# Altium schematic symbol library MCU_NXP_S08.SchLib: 189 symbols (part 3 of 4)
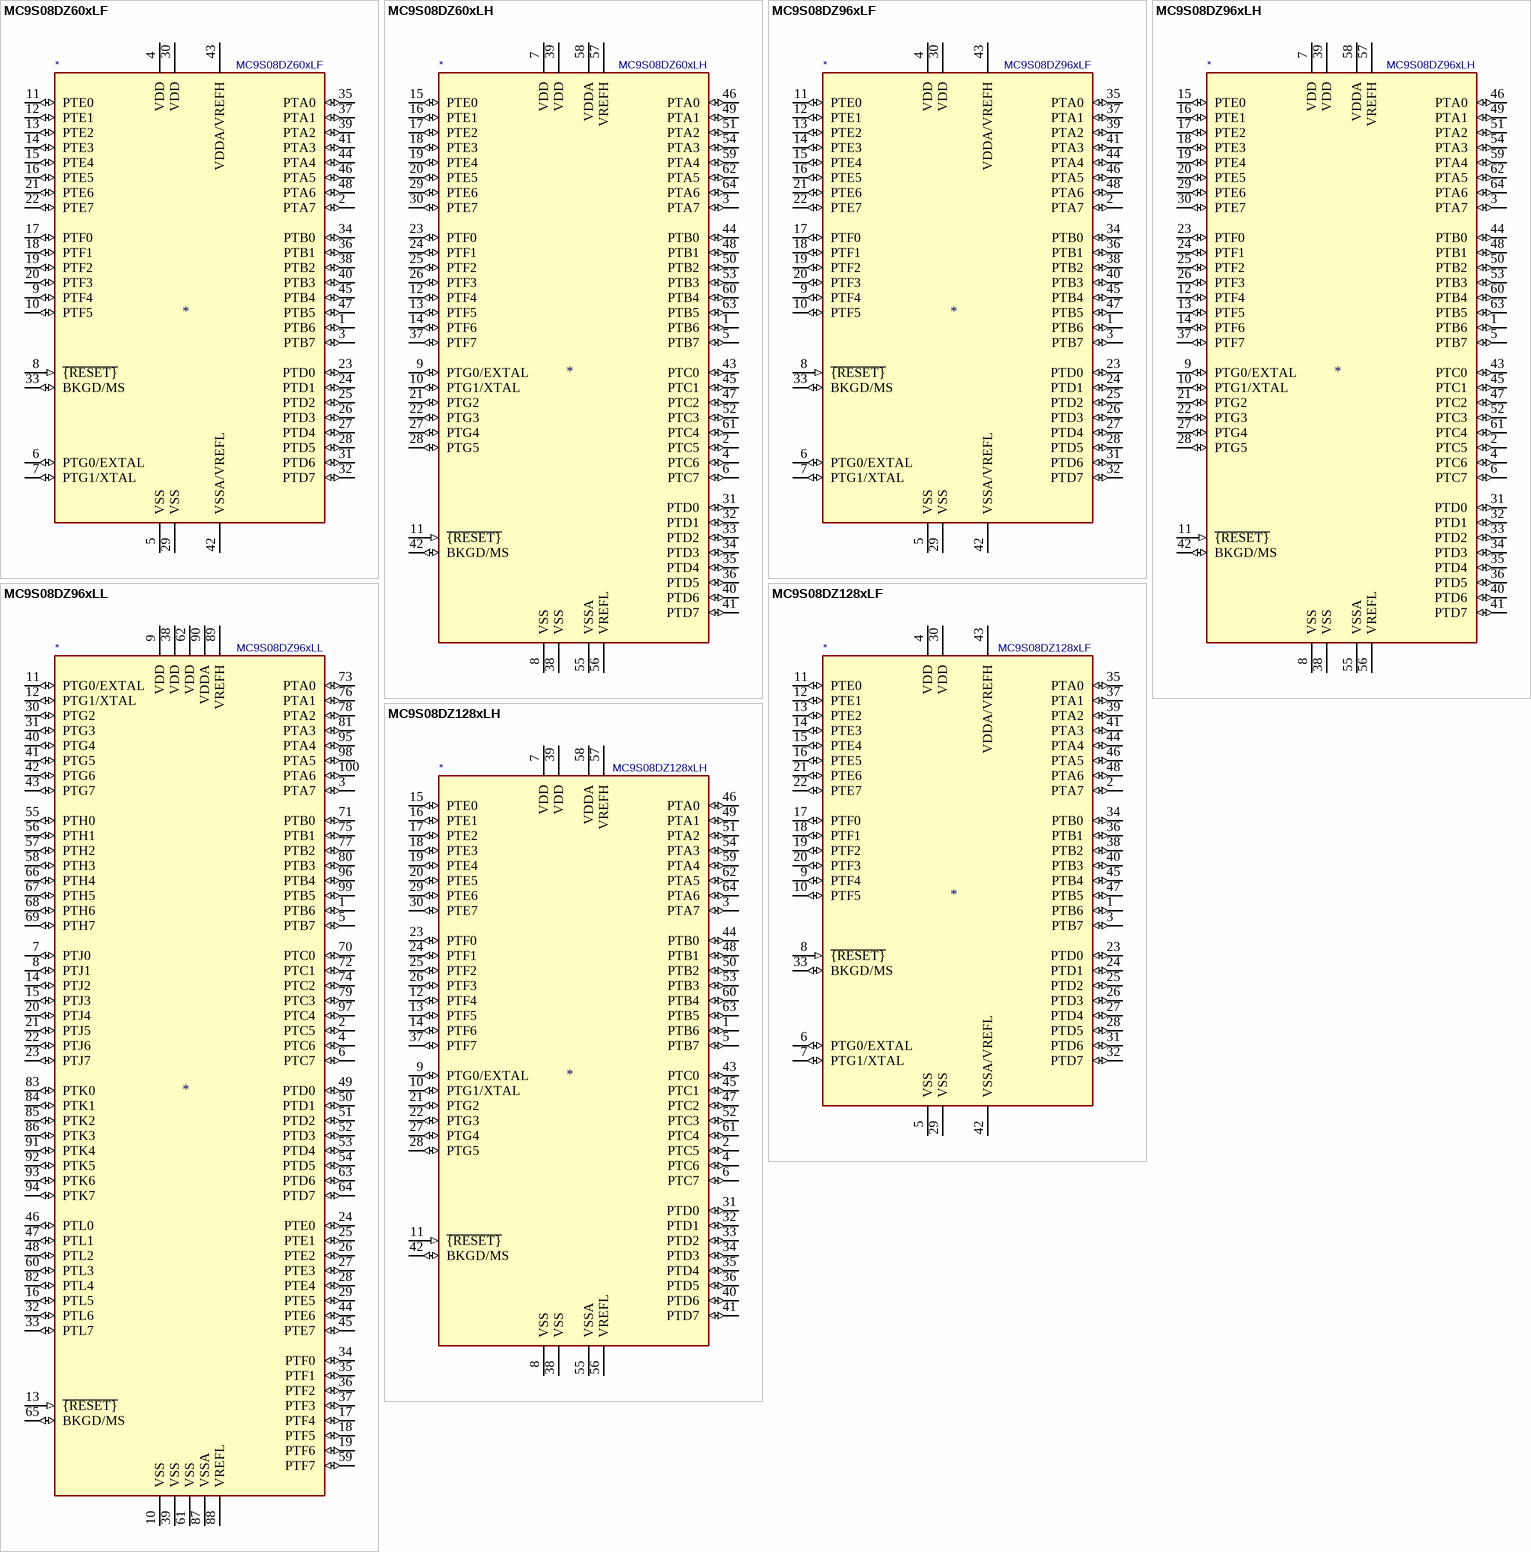
[diagram p21: symbols MC9S08DZ60xLF to MC9S08DZ128xLH]

## MC9S08DZ128xLH
designator *  value MC9S08DZ128xLH
ki_keywords: NXP S08 Microcontroller; ki_description: 8-bit Cost-Effective Microcontroller, S08 core, 128kB Flash, 8kB RAM, 2kB EEPROM, LQFP-64; ki_fp_filters: LQFP*10x10mm*P0.5mm*; Footprint: Package_QFP:LQFP-64_10x10mm_P0.5mm; Supplier: http://cache.nxp.com/files/microcontrollers/doc/data_sheet/MC9S08DZ128.pdf
footprint LQFP-64_10x10mm_P0.5mm
pins: 1 PTB6 (io), 2 PTC5 (io), 3 PTA7 (io), 4 PTC6 (io), 5 PTB7 (io), 6 PTC7 (io), 7 VDD (power), 8 VSS (power), 9 PTG0/EXTAL (io), 10 PTG1/XTAL (io), 11 ~{{RESET}} (in), 12 PTF4 (io), 13 PTF5 (io), 14 PTF6 (io), 15 PTE0 (io), 16 PTE1 (io), 17 PTE2 (io), 18 PTE3 (io), 19 PTE4 (io), 20 PTE5 (io), 21 PTG2 (io), 22 PTG3 (io), 23 PTF0 (io), 24 PTF1 (io), 25 PTF2 (io), 26 PTF3 (io), 27 PTG4 (io), 28 PTG5 (io), 29 PTE6 (io), 30 PTE7 (io), 31 PTD0 (io), 32 PTD1 (io), 33 PTD2 (io), 34 PTD3 (io), 35 PTD4 (io), 36 PTD5 (io), 37 PTF7 (io), 38 VSS (power), 39 VDD (power), 40 PTD6 (io), 41 PTD7 (io), 42 BKGD/MS (io), 43 PTC0 (io), 44 PTB0 (io), 45 PTC1 (io), 46 PTA0 (io), 47 PTC2 (io), 48 PTB1 (io), 49 PTA1 (io), 50 PTB2 (io), 51 PTA2 (io), 52 PTC3 (io), 53 PTB3 (io), 54 PTA3 (io), 55 VSSA (power), 56 VREFL (power), 57 VREFH (power), 58 VDDA (power), 59 PTA4 (io), 60 PTB4 (io), 61 PTC4 (io), 62 PTA5 (io), 63 PTB5 (io), 64 PTA6 (io)

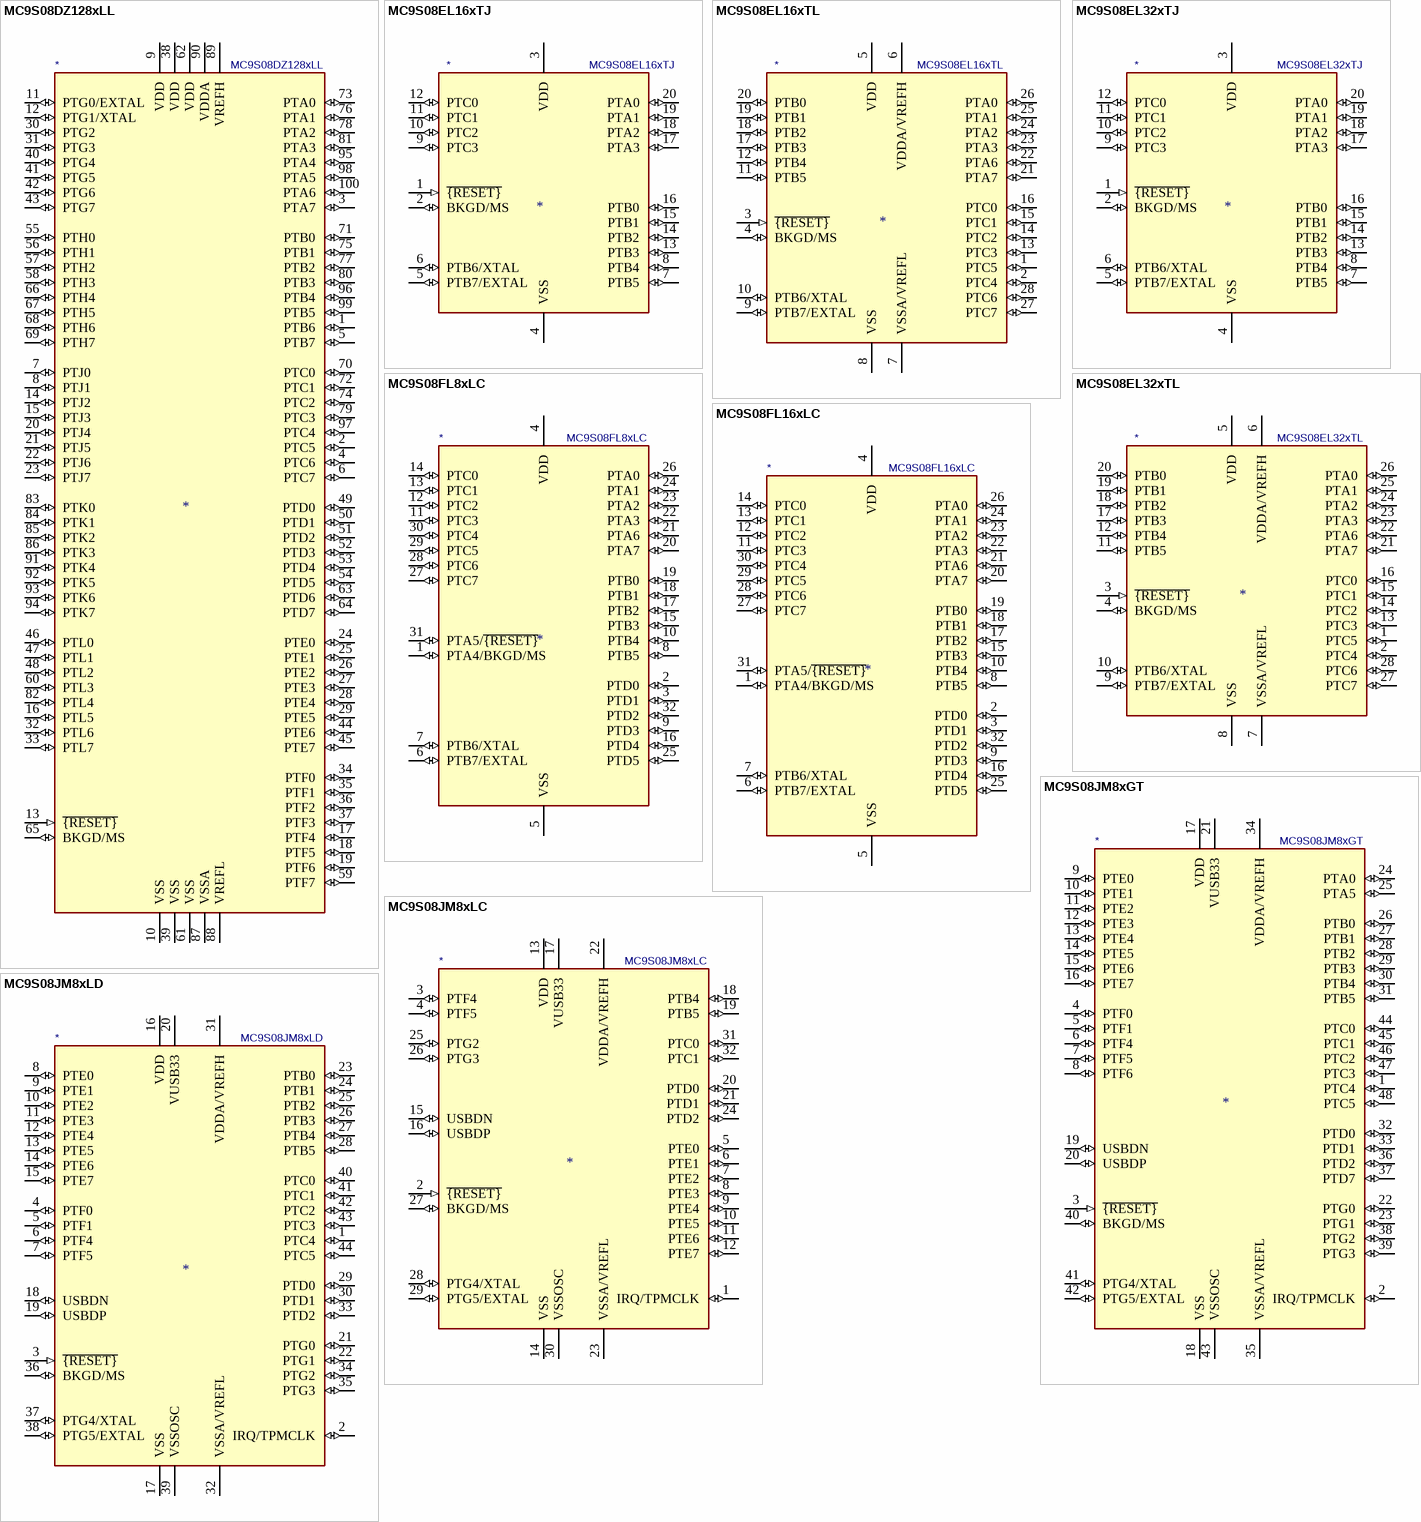
[diagram p11: symbols MC9S08DZ128xLL to MC9S08JM8xLD]

## MC9S08DZ128xLL
designator *  value MC9S08DZ128xLL
ki_keywords: NXP S08 Microcontroller; ki_description: 8-bit Cost-Effective Microcontroller, S08 core, 128kB Flash, 8kB RAM, 2kB EEPROM, LQFP-100; ki_fp_filters: LQFP*14x14mm*P0.5mm*; Footprint: Package_QFP:LQFP-100_14x14mm_P0.5mm; Supplier: http://cache.nxp.com/files/microcontrollers/doc/data_sheet/MC9S08DZ128.pdf
footprint LQFP-100_14x14mm_P0.5mm
pins: 1 PTB6 (io), 2 PTC5 (io), 3 PTA7 (io), 4 PTC6 (io), 5 PTB7 (io), 6 PTC7 (io), 7 PTJ0 (io), 8 PTJ1 (io), 9 VDD (power), 10 VSS (power), 11 PTG0/EXTAL (io), 12 PTG1/XTAL (io), 13 ~{{RESET}} (in), 14 PTJ2 (io), 15 PTJ3 (io), 16 PTL5 (io), 17 PTF4 (io), 18 PTF5 (io), 19 PTF6 (io), 20 PTJ4 (io), 21 PTJ5 (io), 22 PTJ6 (io), 23 PTJ7 (io), 24 PTE0 (io), 25 PTE1 (io), 26 PTE2 (io), 27 PTE3 (io), 28 PTE4 (io), 29 PTE5 (io), 30 PTG2 (io), 31 PTG3 (io), 32 PTL6 (io), 33 PTL7 (io), 34 PTF0 (io), 35 PTF1 (io), 36 PTF2 (io), 37 PTF3 (io), 38 VDD (power), 39 VSS (power), 40 PTG4 (io), 41 PTG5 (io), 42 PTG6 (io), 43 PTG7 (io), 44 PTE6 (io), 45 PTE7 (io), 46 PTL0 (io), 47 PTL1 (io), 48 PTL2 (io), 49 PTD0 (io), 50 PTD1 (io), 51 PTD2 (io), 52 PTD3 (io), 53 PTD4 (io), 54 PTD5 (io), 55 PTH0 (io), 56 PTH1 (io), 57 PTH2 (io), 58 PTH3 (io), 59 PTF7 (io), 60 PTL3 (io), 61 VSS (power), 62 VDD (power), 63 PTD6 (io), 64 PTD7 (io), 65 BKGD/MS (io), 66 PTH4 (io), 67 PTH5 (io), 68 PTH6 (io), 69 PTH7 (io), 70 PTC0 (io), 71 PTB0 (io), 72 PTC1 (io), 73 PTA0 (io), 74 PTC2 (io), 75 PTB1 (io), 76 PTA1 (io), 77 PTB2 (io), 78 PTA2 (io), 79 PTC3 (io), 80 PTB3 (io), 81 PTA3 (io), 82 PTL4 (io), 83 PTK0 (io), 84 PTK1 (io), 85 PTK2 (io), 86 PTK3 (io), 87 VSSA (power), 88 VREFL (power), 89 VREFH (power), 90 VDDA (power), 91 PTK4 (io), 92 PTK5 (io), 93 PTK6 (io), 94 PTK7 (io), 95 PTA4 (io), 96 PTB4 (io), 97 PTC4 (io), 98 PTA5 (io), 99 PTB5 (io), 100 PTA6 (io)

## MC9S08EL16xTJ
designator *  value MC9S08EL16xTJ
ki_keywords: NXP S08 Microcontroller; ki_description: 8-bit EEPROM with LIN Microcontroller, S08 core, 16kB Flash, 1kB RAM, 512B EEPROM, TSSOP-20; ki_fp_filters: TSSOP*4.4x6.5mm*P0.65mm*; Footprint: Package_SO:TSSOP-20_4.4x6.5mm_P0.65mm; Supplier: http://cache.nxp.com/files/microcontrollers/doc/data_sheet/MC9S08EL32.pdf
footprint TSSOP-20_4.4x6.5mm_P0.65mm
pins: 1 ~{{RESET}} (in), 2 BKGD/MS (io), 3 VDD (power), 4 VSS (power), 5 PTB7/EXTAL (io), 6 PTB6/XTAL (io), 7 PTB5 (io), 8 PTB4 (io), 9 PTC3 (io), 10 PTC2 (io), 11 PTC1 (io), 12 PTC0 (io), 13 PTB3 (io), 14 PTB2 (io), 15 PTB1 (io), 16 PTB0 (io), 17 PTA3 (io), 18 PTA2 (io), 19 PTA1 (io), 20 PTA0 (io)

## MC9S08EL16xTL
designator *  value MC9S08EL16xTL
ki_keywords: NXP S08 Microcontroller; ki_description: 8-bit EEPROM with LIN Microcontroller, S08 core, 16kB Flash, 1kB RAM, 512B EEPROM, TSSOP-28; ki_fp_filters: TSSOP*4.4x9.7mm*P0.65mm*; Footprint: Package_SO:TSSOP-28_4.4x9.7mm_P0.65mm; Supplier: http://cache.nxp.com/files/microcontrollers/doc/data_sheet/MC9S08EL32.pdf
footprint TSSOP-28_4.4x9.7mm_P0.65mm
pins: 1 PTC5 (io), 2 PTC4 (io), 3 ~{{RESET}} (in), 4 BKGD/MS (io), 5 VDD (power), 6 VDDA/VREFH (power), 7 VSSA/VREFL (power), 8 VSS (power), 9 PTB7/EXTAL (io), 10 PTB6/XTAL (io), 11 PTB5 (io), 12 PTB4 (io), 13 PTC3 (io), 14 PTC2 (io), 15 PTC1 (io), 16 PTC0 (io), 17 PTB3 (io), 18 PTB2 (io), 19 PTB1 (io), 20 PTB0 (io), 21 PTA7 (io), 22 PTA6 (io), 23 PTA3 (io), 24 PTA2 (io), 25 PTA1 (io), 26 PTA0 (io), 27 PTC7 (io), 28 PTC6 (io)

## MC9S08EL32xTJ
designator *  value MC9S08EL32xTJ
ki_keywords: NXP S08 Microcontroller; ki_description: 8-bit EEPROM with LIN Microcontroller, S08 core, 32kB Flash, 1kB RAM, 512B EEPROM, TSSOP-20; ki_fp_filters: TSSOP*4.4x6.5mm*P0.65mm*; Footprint: Package_SO:TSSOP-20_4.4x6.5mm_P0.65mm; Supplier: http://cache.nxp.com/files/microcontrollers/doc/data_sheet/MC9S08EL32.pdf
footprint TSSOP-20_4.4x6.5mm_P0.65mm
pins: 1 ~{{RESET}} (in), 2 BKGD/MS (io), 3 VDD (power), 4 VSS (power), 5 PTB7/EXTAL (io), 6 PTB6/XTAL (io), 7 PTB5 (io), 8 PTB4 (io), 9 PTC3 (io), 10 PTC2 (io), 11 PTC1 (io), 12 PTC0 (io), 13 PTB3 (io), 14 PTB2 (io), 15 PTB1 (io), 16 PTB0 (io), 17 PTA3 (io), 18 PTA2 (io), 19 PTA1 (io), 20 PTA0 (io)

## MC9S08EL32xTL
designator *  value MC9S08EL32xTL
ki_keywords: NXP S08 Microcontroller; ki_description: 8-bit EEPROM with LIN Microcontroller, S08 core, 32kB Flash, 1kB RAM, 512B EEPROM, TSSOP-28; ki_fp_filters: TSSOP*4.4x9.7mm*P0.65mm*; Footprint: Package_SO:TSSOP-28_4.4x9.7mm_P0.65mm; Supplier: http://cache.nxp.com/files/microcontrollers/doc/data_sheet/MC9S08EL32.pdf
footprint TSSOP-28_4.4x9.7mm_P0.65mm
pins: 1 PTC5 (io), 2 PTC4 (io), 3 ~{{RESET}} (in), 4 BKGD/MS (io), 5 VDD (power), 6 VDDA/VREFH (power), 7 VSSA/VREFL (power), 8 VSS (power), 9 PTB7/EXTAL (io), 10 PTB6/XTAL (io), 11 PTB5 (io), 12 PTB4 (io), 13 PTC3 (io), 14 PTC2 (io), 15 PTC1 (io), 16 PTC0 (io), 17 PTB3 (io), 18 PTB2 (io), 19 PTB1 (io), 20 PTB0 (io), 21 PTA7 (io), 22 PTA6 (io), 23 PTA3 (io), 24 PTA2 (io), 25 PTA1 (io), 26 PTA0 (io), 27 PTC7 (io), 28 PTC6 (io)

## MC9S08FL8xLC
designator *  value MC9S08FL8xLC
ki_keywords: NXP S08 Microcontroller; ki_description: 8-bit Cost-Effective Microcontroller, S08 core, 8kB Flash, 768B RAM, LQFP-32; ki_fp_filters: LQFP*7x7mm*P0.8mm*; Footprint: Package_QFP:LQFP-32_7x7mm_P0.8mm; Supplier: http://cache.nxp.com/files/microcontrollers/doc/ref_manual/MC9S08FL16RM.pdf
footprint LQFP-32_7x7mm_P0.8mm
pins: 1 PTA4/BKGD/MS (io), 2 PTD0 (io), 3 PTD1 (io), 4 VDD (power), 5 VSS (power), 6 PTB7/EXTAL (io), 7 PTB6/XTAL (io), 8 PTB5 (io), 9 PTD3 (io), 10 PTB4 (io), 11 PTC3 (io), 12 PTC2 (io), 13 PTC1 (io), 14 PTC0 (io), 15 PTB3 (io), 16 PTD4 (io), 17 PTB2 (io), 18 PTB1 (io), 19 PTB0 (io), 20 PTA7 (io), 21 PTA6 (io), 22 PTA3 (io), 23 PTA2 (io), 24 PTA1 (io), 25 PTD5 (io), 26 PTA0 (io), 27 PTC7 (io), 28 PTC6 (io), 29 PTC5 (io), 30 PTC4 (io), 31 PTA5/~{{RESET}} (io), 32 PTD2 (io)

## MC9S08FL16xLC
designator *  value MC9S08FL16xLC
ki_keywords: NXP S08 Microcontroller; ki_description: 8-bit Cost-Effective Microcontroller, S08 core, 16kB Flash, 1kB RAM, LQFP-32; ki_fp_filters: LQFP*7x7mm*P0.8mm*; Footprint: Package_QFP:LQFP-32_7x7mm_P0.8mm; Supplier: http://cache.nxp.com/files/microcontrollers/doc/ref_manual/MC9S08FL16RM.pdf
footprint LQFP-32_7x7mm_P0.8mm
pins: 1 PTA4/BKGD/MS (io), 2 PTD0 (io), 3 PTD1 (io), 4 VDD (power), 5 VSS (power), 6 PTB7/EXTAL (io), 7 PTB6/XTAL (io), 8 PTB5 (io), 9 PTD3 (io), 10 PTB4 (io), 11 PTC3 (io), 12 PTC2 (io), 13 PTC1 (io), 14 PTC0 (io), 15 PTB3 (io), 16 PTD4 (io), 17 PTB2 (io), 18 PTB1 (io), 19 PTB0 (io), 20 PTA7 (io), 21 PTA6 (io), 22 PTA3 (io), 23 PTA2 (io), 24 PTA1 (io), 25 PTD5 (io), 26 PTA0 (io), 27 PTC7 (io), 28 PTC6 (io), 29 PTC5 (io), 30 PTC4 (io), 31 PTA5/~{{RESET}} (io), 32 PTD2 (io)

## MC9S08JM8xGT
designator *  value MC9S08JM8xGT
ki_keywords: NXP S08 Microcontroller; ki_description: 8-bit USB Cost-Effective Microcontroller, S08 core, 8kB Flash, 1kB RAM, QFN-48; ki_fp_filters: QFN*7x7mm*P0.5mm*; Footprint: Package_DFN_QFN:QFN-48-1EP_7x7mm_P0.5mm_EP5.15x5.15mm; Supplier: http://cache.nxp.com/files/microcontrollers/doc/data_sheet/MC9S08JM16.pdf
footprint QFN-48-1EP_7x7mm_P0.5mm_EP5.15x5.15mm
pins: 1 PTC4 (io), 2 IRQ/TPMCLK (io), 3 ~{{RESET}} (in), 4 PTF0 (io), 5 PTF1 (io), 6 PTF4 (io), 7 PTF5 (io), 8 PTF6 (io), 9 PTE0 (io), 10 PTE1 (io), 11 PTE2 (io), 12 PTE3 (io), 13 PTE4 (io), 14 PTE5 (io), 15 PTE6 (io), 16 PTE7 (io), 17 VDD (power), 18 VSS (power), 19 USBDN (io), 20 USBDP (io), 21 VUSB33 (power), 22 PTG0 (io), 23 PTG1 (io), 24 PTA0 (io), 25 PTA5 (io), 26 PTB0 (io), 27 PTB1 (io), 28 PTB2 (io), 29 PTB3 (io), 30 PTB4 (io), 31 PTB5 (io), 32 PTD0 (io), 33 PTD1 (io), 34 VDDA/VREFH (power), 35 VSSA/VREFL (power), 36 PTD2 (io), 37 PTD7 (io), 38 PTG2 (io), 39 PTG3 (io), 40 BKGD/MS (io), 41 PTG4/XTAL (io), 42 PTG5/EXTAL (io), 43 VSSOSC (power), 44 PTC0 (io), 45 PTC1 (io), 46 PTC2 (io), 47 PTC3 (io), 48 PTC5 (io)

## MC9S08JM8xLC
designator *  value MC9S08JM8xLC
ki_keywords: NXP S08 Microcontroller; ki_description: 8-bit USB Cost-Effective Microcontroller, S08 core, 8kB Flash, 1kB RAM, LQFP-32; ki_fp_filters: LQFP*7x7mm*P0.8mm*; Footprint: Package_QFP:LQFP-32_7x7mm_P0.8mm; Supplier: http://cache.nxp.com/files/microcontrollers/doc/data_sheet/MC9S08JM16.pdf
footprint LQFP-32_7x7mm_P0.8mm
pins: 1 IRQ/TPMCLK (io), 2 ~{{RESET}} (in), 3 PTF4 (io), 4 PTF5 (io), 5 PTE0 (io), 6 PTE1 (io), 7 PTE2 (io), 8 PTE3 (io), 9 PTE4 (io), 10 PTE5 (io), 11 PTE6 (io), 12 PTE7 (io), 13 VDD (power), 14 VSS (power), 15 USBDN (io), 16 USBDP (io), 17 VUSB33 (power), 18 PTB4 (io), 19 PTB5 (io), 20 PTD0 (io), 21 PTD1 (io), 22 VDDA/VREFH (power), 23 VSSA/VREFL (power), 24 PTD2 (io), 25 PTG2 (io), 26 PTG3 (io), 27 BKGD/MS (io), 28 PTG4/XTAL (io), 29 PTG5/EXTAL (io), 30 VSSOSC (power), 31 PTC0 (io), 32 PTC1 (io)

## MC9S08JM8xLD
designator *  value MC9S08JM8xLD
ki_keywords: NXP S08 Microcontroller; ki_description: 8-bit USB Cost-Effective Microcontroller, S08 core, 8kB Flash, 1kB RAM, LQFP-44; ki_fp_filters: LQFP*10x10mm*P0.8mm*; Footprint: Package_QFP:LQFP-44_10x10mm_P0.8mm; Supplier: http://cache.nxp.com/files/microcontrollers/doc/data_sheet/MC9S08JM16.pdf
footprint LQFP-44_10x10mm_P0.8mm
pins: 1 PTC4 (io), 2 IRQ/TPMCLK (io), 3 ~{{RESET}} (in), 4 PTF0 (io), 5 PTF1 (io), 6 PTF4 (io), 7 PTF5 (io), 8 PTE0 (io), 9 PTE1 (io), 10 PTE2 (io), 11 PTE3 (io), 12 PTE4 (io), 13 PTE5 (io), 14 PTE6 (io), 15 PTE7 (io), 16 VDD (power), 17 VSS (power), 18 USBDN (io), 19 USBDP (io), 20 VUSB33 (power), 21 PTG0 (io), 22 PTG1 (io), 23 PTB0 (io), 24 PTB1 (io), 25 PTB2 (io), 26 PTB3 (io), 27 PTB4 (io), 28 PTB5 (io), 29 PTD0 (io), 30 PTD1 (io), 31 VDDA/VREFH (power), 32 VSSA/VREFL (power), 33 PTD2 (io), 34 PTG2 (io), 35 PTG3 (io), 36 BKGD/MS (io), 37 PTG4/XTAL (io), 38 PTG5/EXTAL (io), 39 VSSOSC (power), 40 PTC0 (io), 41 PTC1 (io), 42 PTC2 (io), 43 PTC3 (io), 44 PTC5 (io)

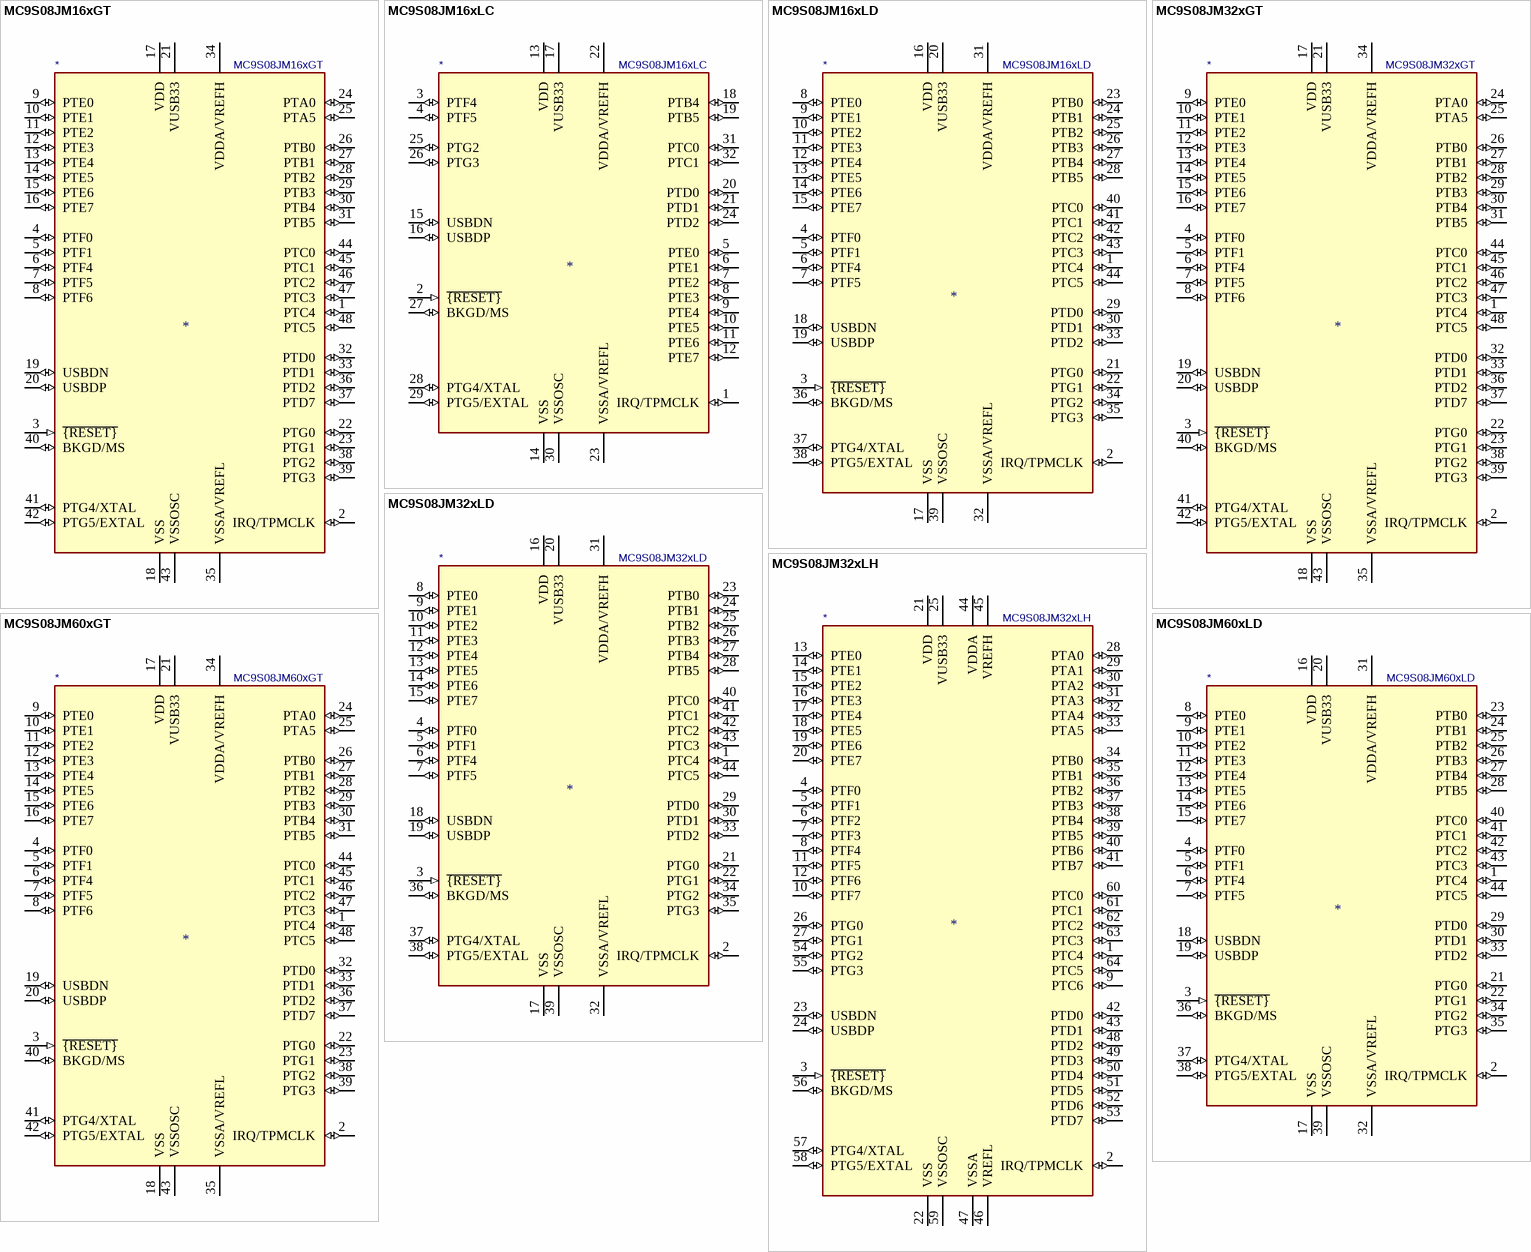
[diagram p12: symbols MC9S08JM16xGT to MC9S08JM60xLD]

## MC9S08JM16xGT
designator *  value MC9S08JM16xGT
ki_keywords: NXP S08 Microcontroller; ki_description: 8-bit USB Cost-Effective Microcontroller, S08 core, 16kB Flash, 1kB RAM, QFN-48; ki_fp_filters: QFN*7x7mm*P0.5mm*; Footprint: Package_DFN_QFN:QFN-48-1EP_7x7mm_P0.5mm_EP5.15x5.15mm; Supplier: http://cache.nxp.com/files/microcontrollers/doc/data_sheet/MC9S08JM16.pdf
footprint QFN-48-1EP_7x7mm_P0.5mm_EP5.15x5.15mm
pins: 1 PTC4 (io), 2 IRQ/TPMCLK (io), 3 ~{{RESET}} (in), 4 PTF0 (io), 5 PTF1 (io), 6 PTF4 (io), 7 PTF5 (io), 8 PTF6 (io), 9 PTE0 (io), 10 PTE1 (io), 11 PTE2 (io), 12 PTE3 (io), 13 PTE4 (io), 14 PTE5 (io), 15 PTE6 (io), 16 PTE7 (io), 17 VDD (power), 18 VSS (power), 19 USBDN (io), 20 USBDP (io), 21 VUSB33 (power), 22 PTG0 (io), 23 PTG1 (io), 24 PTA0 (io), 25 PTA5 (io), 26 PTB0 (io), 27 PTB1 (io), 28 PTB2 (io), 29 PTB3 (io), 30 PTB4 (io), 31 PTB5 (io), 32 PTD0 (io), 33 PTD1 (io), 34 VDDA/VREFH (power), 35 VSSA/VREFL (power), 36 PTD2 (io), 37 PTD7 (io), 38 PTG2 (io), 39 PTG3 (io), 40 BKGD/MS (io), 41 PTG4/XTAL (io), 42 PTG5/EXTAL (io), 43 VSSOSC (power), 44 PTC0 (io), 45 PTC1 (io), 46 PTC2 (io), 47 PTC3 (io), 48 PTC5 (io)

## MC9S08JM16xLC
designator *  value MC9S08JM16xLC
ki_keywords: NXP S08 Microcontroller; ki_description: 8-bit USB Cost-Effective Microcontroller, S08 core, 16kB Flash, 1kB RAM, LQFP-32; ki_fp_filters: LQFP*7x7mm*P0.8mm*; Footprint: Package_QFP:LQFP-32_7x7mm_P0.8mm; Supplier: http://cache.nxp.com/files/microcontrollers/doc/data_sheet/MC9S08JM16.pdf
footprint LQFP-32_7x7mm_P0.8mm
pins: 1 IRQ/TPMCLK (io), 2 ~{{RESET}} (in), 3 PTF4 (io), 4 PTF5 (io), 5 PTE0 (io), 6 PTE1 (io), 7 PTE2 (io), 8 PTE3 (io), 9 PTE4 (io), 10 PTE5 (io), 11 PTE6 (io), 12 PTE7 (io), 13 VDD (power), 14 VSS (power), 15 USBDN (io), 16 USBDP (io), 17 VUSB33 (power), 18 PTB4 (io), 19 PTB5 (io), 20 PTD0 (io), 21 PTD1 (io), 22 VDDA/VREFH (power), 23 VSSA/VREFL (power), 24 PTD2 (io), 25 PTG2 (io), 26 PTG3 (io), 27 BKGD/MS (io), 28 PTG4/XTAL (io), 29 PTG5/EXTAL (io), 30 VSSOSC (power), 31 PTC0 (io), 32 PTC1 (io)

## MC9S08JM16xLD
designator *  value MC9S08JM16xLD
ki_keywords: NXP S08 Microcontroller; ki_description: 8-bit USB Cost-Effective Microcontroller, S08 core, 16kB Flash, 1kB RAM, LQFP-44; ki_fp_filters: LQFP*10x10mm*P0.8mm*; Footprint: Package_QFP:LQFP-44_10x10mm_P0.8mm; Supplier: http://cache.nxp.com/files/microcontrollers/doc/data_sheet/MC9S08JM16.pdf
footprint LQFP-44_10x10mm_P0.8mm
pins: 1 PTC4 (io), 2 IRQ/TPMCLK (io), 3 ~{{RESET}} (in), 4 PTF0 (io), 5 PTF1 (io), 6 PTF4 (io), 7 PTF5 (io), 8 PTE0 (io), 9 PTE1 (io), 10 PTE2 (io), 11 PTE3 (io), 12 PTE4 (io), 13 PTE5 (io), 14 PTE6 (io), 15 PTE7 (io), 16 VDD (power), 17 VSS (power), 18 USBDN (io), 19 USBDP (io), 20 VUSB33 (power), 21 PTG0 (io), 22 PTG1 (io), 23 PTB0 (io), 24 PTB1 (io), 25 PTB2 (io), 26 PTB3 (io), 27 PTB4 (io), 28 PTB5 (io), 29 PTD0 (io), 30 PTD1 (io), 31 VDDA/VREFH (power), 32 VSSA/VREFL (power), 33 PTD2 (io), 34 PTG2 (io), 35 PTG3 (io), 36 BKGD/MS (io), 37 PTG4/XTAL (io), 38 PTG5/EXTAL (io), 39 VSSOSC (power), 40 PTC0 (io), 41 PTC1 (io), 42 PTC2 (io), 43 PTC3 (io), 44 PTC5 (io)

## MC9S08JM32xGT
designator *  value MC9S08JM32xGT
ki_keywords: NXP S08 Microcontroller; ki_description: 8-bit USB Cost-Effective Microcontroller, S08 core, 32kB Flash, 2kB RAM, QFN-48; ki_fp_filters: QFN*7x7mm*P0.5mm*; Footprint: Package_DFN_QFN:QFN-48-1EP_7x7mm_P0.5mm_EP5.15x5.15mm; Supplier: http://cache.nxp.com/files/microcontrollers/doc/data_sheet/MC9S08JM60.pdf
footprint QFN-48-1EP_7x7mm_P0.5mm_EP5.15x5.15mm
pins: 1 PTC4 (io), 2 IRQ/TPMCLK (io), 3 ~{{RESET}} (in), 4 PTF0 (io), 5 PTF1 (io), 6 PTF4 (io), 7 PTF5 (io), 8 PTF6 (io), 9 PTE0 (io), 10 PTE1 (io), 11 PTE2 (io), 12 PTE3 (io), 13 PTE4 (io), 14 PTE5 (io), 15 PTE6 (io), 16 PTE7 (io), 17 VDD (power), 18 VSS (power), 19 USBDN (io), 20 USBDP (io), 21 VUSB33 (power), 22 PTG0 (io), 23 PTG1 (io), 24 PTA0 (io), 25 PTA5 (io), 26 PTB0 (io), 27 PTB1 (io), 28 PTB2 (io), 29 PTB3 (io), 30 PTB4 (io), 31 PTB5 (io), 32 PTD0 (io), 33 PTD1 (io), 34 VDDA/VREFH (power), 35 VSSA/VREFL (power), 36 PTD2 (io), 37 PTD7 (io), 38 PTG2 (io), 39 PTG3 (io), 40 BKGD/MS (io), 41 PTG4/XTAL (io), 42 PTG5/EXTAL (io), 43 VSSOSC (power), 44 PTC0 (io), 45 PTC1 (io), 46 PTC2 (io), 47 PTC3 (io), 48 PTC5 (io)

## MC9S08JM32xLD
designator *  value MC9S08JM32xLD
ki_keywords: NXP S08 Microcontroller; ki_description: 8-bit USB Cost-Effective Microcontroller, S08 core, 32kB Flash, 2kB RAM, LQFP-44; ki_fp_filters: LQFP*10x10mm*P0.8mm*; Footprint: Package_QFP:LQFP-44_10x10mm_P0.8mm; Supplier: http://cache.nxp.com/files/microcontrollers/doc/data_sheet/MC9S08JM60.pdf
footprint LQFP-44_10x10mm_P0.8mm
pins: 1 PTC4 (io), 2 IRQ/TPMCLK (io), 3 ~{{RESET}} (in), 4 PTF0 (io), 5 PTF1 (io), 6 PTF4 (io), 7 PTF5 (io), 8 PTE0 (io), 9 PTE1 (io), 10 PTE2 (io), 11 PTE3 (io), 12 PTE4 (io), 13 PTE5 (io), 14 PTE6 (io), 15 PTE7 (io), 16 VDD (power), 17 VSS (power), 18 USBDN (io), 19 USBDP (io), 20 VUSB33 (power), 21 PTG0 (io), 22 PTG1 (io), 23 PTB0 (io), 24 PTB1 (io), 25 PTB2 (io), 26 PTB3 (io), 27 PTB4 (io), 28 PTB5 (io), 29 PTD0 (io), 30 PTD1 (io), 31 VDDA/VREFH (power), 32 VSSA/VREFL (power), 33 PTD2 (io), 34 PTG2 (io), 35 PTG3 (io), 36 BKGD/MS (io), 37 PTG4/XTAL (io), 38 PTG5/EXTAL (io), 39 VSSOSC (power), 40 PTC0 (io), 41 PTC1 (io), 42 PTC2 (io), 43 PTC3 (io), 44 PTC5 (io)

## MC9S08JM32xLH
designator *  value MC9S08JM32xLH
ki_keywords: NXP S08 Microcontroller; ki_description: 8-bit USB Cost-Effective Microcontroller, S08 core, 32kB Flash, 2kB RAM, LQFP-64; ki_fp_filters: LQFP*10x10mm*P0.5mm*; Footprint: Package_QFP:LQFP-64_10x10mm_P0.5mm; Supplier: http://cache.nxp.com/files/microcontrollers/doc/data_sheet/MC9S08JM60.pdf
footprint LQFP-64_10x10mm_P0.5mm
pins: 1 PTC4 (io), 2 IRQ/TPMCLK (io), 3 ~{{RESET}} (in), 4 PTF0 (io), 5 PTF1 (io), 6 PTF2 (io), 7 PTF3 (io), 8 PTF4 (io), 9 PTC6 (io), 10 PTF7 (io), 11 PTF5 (io), 12 PTF6 (io), 13 PTE0 (io), 14 PTE1 (io), 15 PTE2 (io), 16 PTE3 (io), 17 PTE4 (io), 18 PTE5 (io), 19 PTE6 (io), 20 PTE7 (io), 21 VDD (power), 22 VSS (power), 23 USBDN (io), 24 USBDP (io), 25 VUSB33 (power), 26 PTG0 (io), 27 PTG1 (io), 28 PTA0 (io), 29 PTA1 (io), 30 PTA2 (io), 31 PTA3 (io), 32 PTA4 (io), 33 PTA5 (io), 34 PTB0 (io), 35 PTB1 (io), 36 PTB2 (io), 37 PTB3 (io), 38 PTB4 (io), 39 PTB5 (io), 40 PTB6 (io), 41 PTB7 (io), 42 PTD0 (io), 43 PTD1 (io), 44 VDDA (power), 45 VREFH (power), 46 VREFL (power), 47 VSSA (power), 48 PTD2 (io), 49 PTD3 (io), 50 PTD4 (io), 51 PTD5 (io), 52 PTD6 (io), 53 PTD7 (io), 54 PTG2 (io), 55 PTG3 (io), 56 BKGD/MS (io), 57 PTG4/XTAL (io), 58 PTG5/EXTAL (io), 59 VSSOSC (power), 60 PTC0 (io), 61 PTC1 (io), 62 PTC2 (io), 63 PTC3 (io), 64 PTC5 (io)

## MC9S08JM60xGT
designator *  value MC9S08JM60xGT
ki_keywords: NXP S08 Microcontroller; ki_description: 8-bit USB Cost-Effective Microcontroller, S08 core, 60kB Flash, 4kB RAM, QFN-48; ki_fp_filters: QFN*7x7mm*P0.5mm*; Footprint: Package_DFN_QFN:QFN-48-1EP_7x7mm_P0.5mm_EP5.15x5.15mm; Supplier: http://cache.nxp.com/files/microcontrollers/doc/data_sheet/MC9S08JM60.pdf
footprint QFN-48-1EP_7x7mm_P0.5mm_EP5.15x5.15mm
pins: 1 PTC4 (io), 2 IRQ/TPMCLK (io), 3 ~{{RESET}} (in), 4 PTF0 (io), 5 PTF1 (io), 6 PTF4 (io), 7 PTF5 (io), 8 PTF6 (io), 9 PTE0 (io), 10 PTE1 (io), 11 PTE2 (io), 12 PTE3 (io), 13 PTE4 (io), 14 PTE5 (io), 15 PTE6 (io), 16 PTE7 (io), 17 VDD (power), 18 VSS (power), 19 USBDN (io), 20 USBDP (io), 21 VUSB33 (power), 22 PTG0 (io), 23 PTG1 (io), 24 PTA0 (io), 25 PTA5 (io), 26 PTB0 (io), 27 PTB1 (io), 28 PTB2 (io), 29 PTB3 (io), 30 PTB4 (io), 31 PTB5 (io), 32 PTD0 (io), 33 PTD1 (io), 34 VDDA/VREFH (power), 35 VSSA/VREFL (power), 36 PTD2 (io), 37 PTD7 (io), 38 PTG2 (io), 39 PTG3 (io), 40 BKGD/MS (io), 41 PTG4/XTAL (io), 42 PTG5/EXTAL (io), 43 VSSOSC (power), 44 PTC0 (io), 45 PTC1 (io), 46 PTC2 (io), 47 PTC3 (io), 48 PTC5 (io)

## MC9S08JM60xLD
designator *  value MC9S08JM60xLD
ki_keywords: NXP S08 Microcontroller; ki_description: 8-bit USB Cost-Effective Microcontroller, S08 core, 60kB Flash, 4kB RAM, LQFP-44; ki_fp_filters: LQFP*10x10mm*P0.8mm*; Footprint: Package_QFP:LQFP-44_10x10mm_P0.8mm; Supplier: http://cache.nxp.com/files/microcontrollers/doc/data_sheet/MC9S08JM60.pdf
footprint LQFP-44_10x10mm_P0.8mm
pins: 1 PTC4 (io), 2 IRQ/TPMCLK (io), 3 ~{{RESET}} (in), 4 PTF0 (io), 5 PTF1 (io), 6 PTF4 (io), 7 PTF5 (io), 8 PTE0 (io), 9 PTE1 (io), 10 PTE2 (io), 11 PTE3 (io), 12 PTE4 (io), 13 PTE5 (io), 14 PTE6 (io), 15 PTE7 (io), 16 VDD (power), 17 VSS (power), 18 USBDN (io), 19 USBDP (io), 20 VUSB33 (power), 21 PTG0 (io), 22 PTG1 (io), 23 PTB0 (io), 24 PTB1 (io), 25 PTB2 (io), 26 PTB3 (io), 27 PTB4 (io), 28 PTB5 (io), 29 PTD0 (io), 30 PTD1 (io), 31 VDDA/VREFH (power), 32 VSSA/VREFL (power), 33 PTD2 (io), 34 PTG2 (io), 35 PTG3 (io), 36 BKGD/MS (io), 37 PTG4/XTAL (io), 38 PTG5/EXTAL (io), 39 VSSOSC (power), 40 PTC0 (io), 41 PTC1 (io), 42 PTC2 (io), 43 PTC3 (io), 44 PTC5 (io)

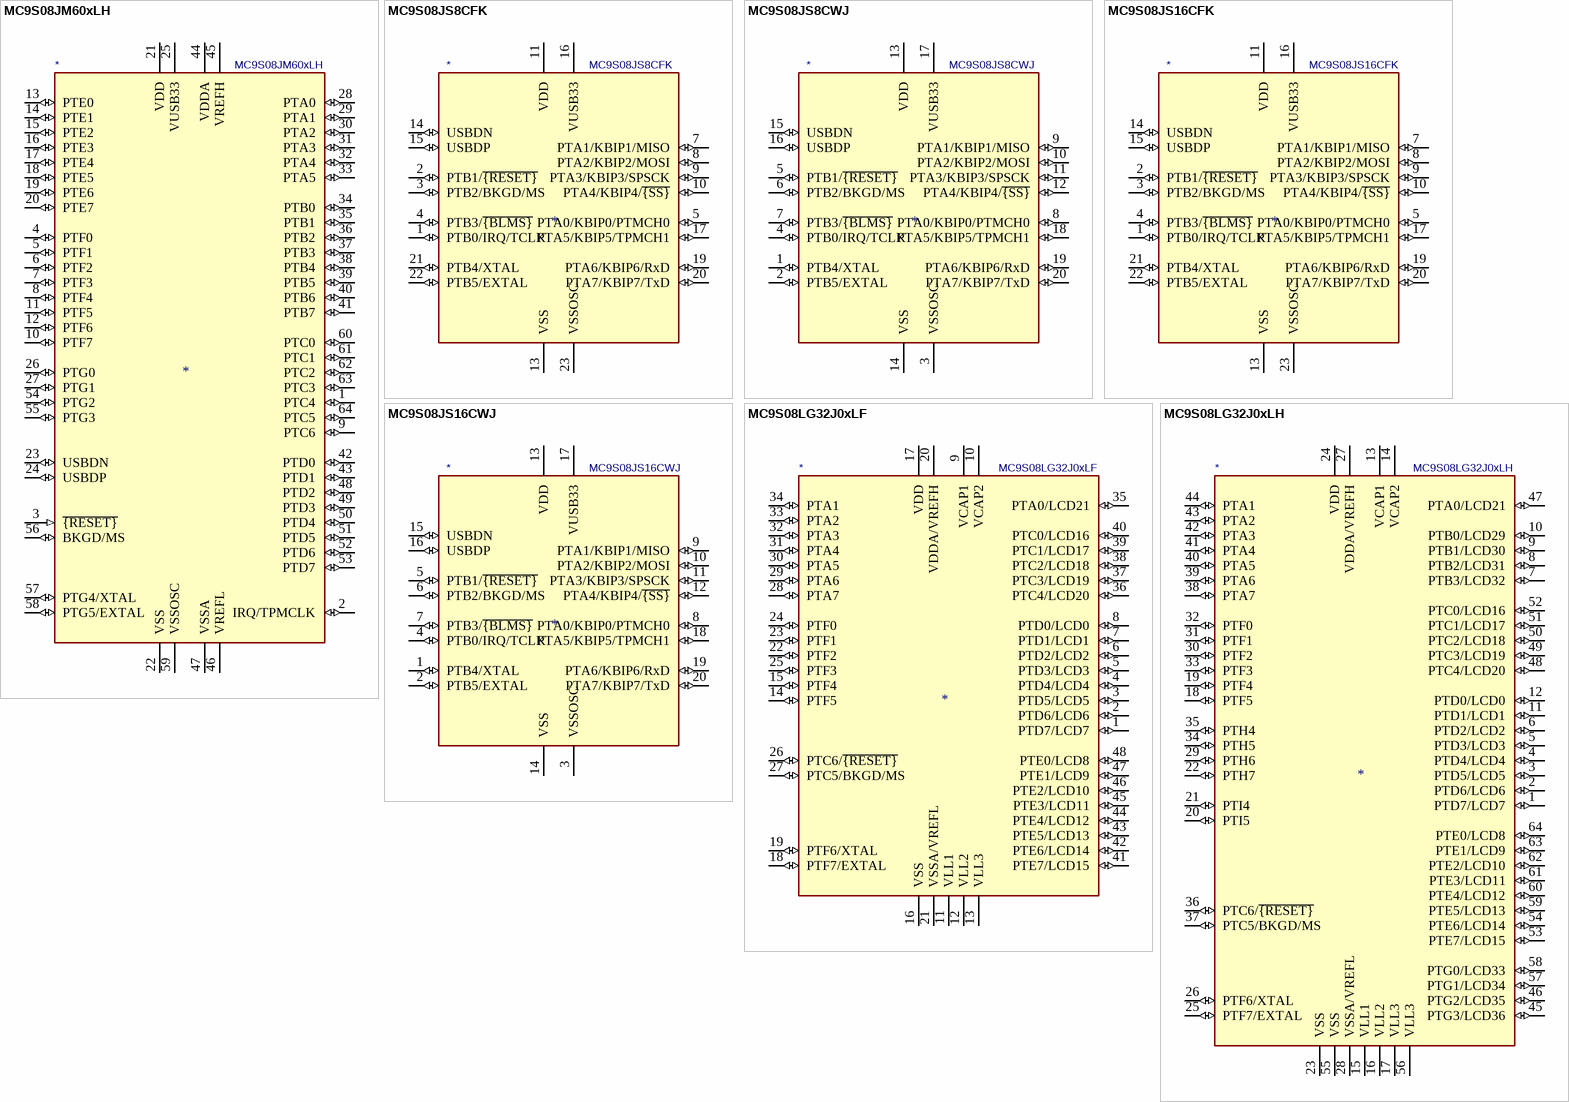
[diagram p13: symbols MC9S08JM60xLH to MC9S08LG32J0xLH]

## MC9S08JM60xLH
designator *  value MC9S08JM60xLH
ki_keywords: NXP S08 Microcontroller; ki_description: 8-bit USB Cost-Effective Microcontroller, S08 core, 60kB Flash, 4kB RAM, LQFP-64; ki_fp_filters: LQFP*10x10mm*P0.5mm*; Footprint: Package_QFP:LQFP-64_10x10mm_P0.5mm; Supplier: http://cache.nxp.com/files/microcontrollers/doc/data_sheet/MC9S08JM60.pdf
footprint LQFP-64_10x10mm_P0.5mm
pins: 1 PTC4 (io), 2 IRQ/TPMCLK (io), 3 ~{{RESET}} (in), 4 PTF0 (io), 5 PTF1 (io), 6 PTF2 (io), 7 PTF3 (io), 8 PTF4 (io), 9 PTC6 (io), 10 PTF7 (io), 11 PTF5 (io), 12 PTF6 (io), 13 PTE0 (io), 14 PTE1 (io), 15 PTE2 (io), 16 PTE3 (io), 17 PTE4 (io), 18 PTE5 (io), 19 PTE6 (io), 20 PTE7 (io), 21 VDD (power), 22 VSS (power), 23 USBDN (io), 24 USBDP (io), 25 VUSB33 (power), 26 PTG0 (io), 27 PTG1 (io), 28 PTA0 (io), 29 PTA1 (io), 30 PTA2 (io), 31 PTA3 (io), 32 PTA4 (io), 33 PTA5 (io), 34 PTB0 (io), 35 PTB1 (io), 36 PTB2 (io), 37 PTB3 (io), 38 PTB4 (io), 39 PTB5 (io), 40 PTB6 (io), 41 PTB7 (io), 42 PTD0 (io), 43 PTD1 (io), 44 VDDA (power), 45 VREFH (power), 46 VREFL (power), 47 VSSA (power), 48 PTD2 (io), 49 PTD3 (io), 50 PTD4 (io), 51 PTD5 (io), 52 PTD6 (io), 53 PTD7 (io), 54 PTG2 (io), 55 PTG3 (io), 56 BKGD/MS (io), 57 PTG4/XTAL (io), 58 PTG5/EXTAL (io), 59 VSSOSC (power), 60 PTC0 (io), 61 PTC1 (io), 62 PTC2 (io), 63 PTC3 (io), 64 PTC5 (io)

## MC9S08JS8CFK
designator *  value MC9S08JS8CFK
ki_keywords: NXP S08 Microcontroller; ki_description: 8-bit USB Microcontroller, S08 core, 8kB Flash, 512B RAM, QFN-24; ki_fp_filters: QFN*1EP*5x5mm*P0.65mm*; Footprint: Package_DFN_QFN:QFN-24-1EP_5x5mm_P0.65mm_EP3.6x3.6mm; Supplier: http://cache.nxp.com/files/32bit/doc/ref_manual/MC9S08JS16RM.pdf
footprint QFN-24-1EP_5x5mm_P0.65mm_EP3.6x3.6mm
pins: 1 PTB0/IRQ/TCLK (io), 2 PTB1/~{{RESET}} (io), 3 PTB2/BKGD/MS (io), 4 PTB3/~{{BLMS}} (io), 5 PTA0/KBIP0/PTMCH0 (io), 7 PTA1/KBIP1/MISO (io), 8 PTA2/KBIP2/MOSI (io), 9 PTA3/KBIP3/SPSCK (io), 10 PTA4/KBIP4/~{{SS}} (io), 11 VDD (power), 13 VSS (power), 14 USBDN (io), 15 USBDP (io), 16 VUSB33 (power), 17 PTA5/KBIP5/TPMCH1 (io), 19 PTA6/KBIP6/RxD (io), 20 PTA7/KBIP7/TxD (io), 21 PTB4/XTAL (io), 22 PTB5/EXTAL (io), 23 VSSOSC (power)

## MC9S08JS8CWJ
designator *  value MC9S08JS8CWJ
ki_keywords: NXP S08 Microcontroller; ki_description: 8-bit USB Microcontroller, S08 core, 8kB Flash, 512B RAM, SOIC-20; ki_fp_filters: SOIC*7.5x12.8mm*P1.27mm*; Footprint: Package_SO:SOIC-20W_7.5x12.8mm_P1.27mm; Supplier: http://cache.nxp.com/files/32bit/doc/ref_manual/MC9S08JS16RM.pdf
footprint SOIC-20W_7.5x12.8mm_P1.27mm
pins: 1 PTB4/XTAL (io), 2 PTB5/EXTAL (io), 3 VSSOSC (power), 4 PTB0/IRQ/TCLK (io), 5 PTB1/~{{RESET}} (io), 6 PTB2/BKGD/MS (io), 7 PTB3/~{{BLMS}} (io), 8 PTA0/KBIP0/PTMCH0 (io), 9 PTA1/KBIP1/MISO (io), 10 PTA2/KBIP2/MOSI (io), 11 PTA3/KBIP3/SPSCK (io), 12 PTA4/KBIP4/~{{SS}} (io), 13 VDD (power), 14 VSS (power), 15 USBDN (io), 16 USBDP (io), 17 VUSB33 (power), 18 PTA5/KBIP5/TPMCH1 (io), 19 PTA6/KBIP6/RxD (io), 20 PTA7/KBIP7/TxD (io)

## MC9S08JS16CFK
designator *  value MC9S08JS16CFK
ki_keywords: NXP S08 Microcontroller; ki_description: 8-bit USB Microcontroller, S08 core, 16kB Flash, 512B RAM, QFN-24; ki_fp_filters: QFN*1EP*5x5mm*P0.65mm*; Footprint: Package_DFN_QFN:QFN-24-1EP_5x5mm_P0.65mm_EP3.6x3.6mm; Supplier: http://cache.nxp.com/files/32bit/doc/ref_manual/MC9S08JS16RM.pdf
footprint QFN-24-1EP_5x5mm_P0.65mm_EP3.6x3.6mm
pins: 1 PTB0/IRQ/TCLK (io), 2 PTB1/~{{RESET}} (io), 3 PTB2/BKGD/MS (io), 4 PTB3/~{{BLMS}} (io), 5 PTA0/KBIP0/PTMCH0 (io), 7 PTA1/KBIP1/MISO (io), 8 PTA2/KBIP2/MOSI (io), 9 PTA3/KBIP3/SPSCK (io), 10 PTA4/KBIP4/~{{SS}} (io), 11 VDD (power), 13 VSS (power), 14 USBDN (io), 15 USBDP (io), 16 VUSB33 (power), 17 PTA5/KBIP5/TPMCH1 (io), 19 PTA6/KBIP6/RxD (io), 20 PTA7/KBIP7/TxD (io), 21 PTB4/XTAL (io), 22 PTB5/EXTAL (io), 23 VSSOSC (power)

## MC9S08JS16CWJ
designator *  value MC9S08JS16CWJ
ki_keywords: NXP S08 Microcontroller; ki_description: 8-bit USB Microcontroller, S08 core, 16kB Flash, 512B RAM, SOIC-20; ki_fp_filters: SOIC*7.5x12.8mm*P1.27mm*; Footprint: Package_SO:SOIC-20W_7.5x12.8mm_P1.27mm; Supplier: http://cache.nxp.com/files/32bit/doc/ref_manual/MC9S08JS16RM.pdf
footprint SOIC-20W_7.5x12.8mm_P1.27mm
pins: 1 PTB4/XTAL (io), 2 PTB5/EXTAL (io), 3 VSSOSC (power), 4 PTB0/IRQ/TCLK (io), 5 PTB1/~{{RESET}} (io), 6 PTB2/BKGD/MS (io), 7 PTB3/~{{BLMS}} (io), 8 PTA0/KBIP0/PTMCH0 (io), 9 PTA1/KBIP1/MISO (io), 10 PTA2/KBIP2/MOSI (io), 11 PTA3/KBIP3/SPSCK (io), 12 PTA4/KBIP4/~{{SS}} (io), 13 VDD (power), 14 VSS (power), 15 USBDN (io), 16 USBDP (io), 17 VUSB33 (power), 18 PTA5/KBIP5/TPMCH1 (io), 19 PTA6/KBIP6/RxD (io), 20 PTA7/KBIP7/TxD (io)

## MC9S08LG32J0xLF
designator *  value MC9S08LG32J0xLF
ki_keywords: NXP S08 Microcontroller; ki_description: 8-bit Segment LCD Microcontroller, S08 core, 32kB Flash, 1984B RAM, LQFP-48; ki_fp_filters: TQFP*7x7mm*P0.5mm*; Footprint: Package_QFP:TQFP-48-1EP_7x7mm_P0.5mm_EP3.5x3.5mm; Supplier: http://cache.nxp.com/files/microcontrollers/doc/ref_manual/MC9S08LG32RM.pdf
footprint TQFP-48-1EP_7x7mm_P0.5mm_EP3.5x3.5mm
pins: 1 PTD7/LCD7 (io), 2 PTD6/LCD6 (io), 3 PTD5/LCD5 (io), 4 PTD4/LCD4 (io), 5 PTD3/LCD3 (io), 6 PTD2/LCD2 (io), 7 PTD1/LCD1 (io), 8 PTD0/LCD0 (io), 9 VCAP1 (power), 10 VCAP2 (power), 11 VLL1 (power), 12 VLL2 (power), 13 VLL3 (power), 14 PTF5 (io), 15 PTF4 (io), 16 VSS (power), 17 VDD (power), 18 PTF7/EXTAL (io), 19 PTF6/XTAL (io), 20 VDDA/VREFH (power), 21 VSSA/VREFL (power), 22 PTF2 (io), 23 PTF1 (io), 24 PTF0 (io), 25 PTF3 (io), 26 PTC6/~{{RESET}} (io), 27 PTC5/BKGD/MS (io), 28 PTA7 (io), 29 PTA6 (io), 30 PTA5 (io), 31 PTA4 (io), 32 PTA3 (io), 33 PTA2 (io), 34 PTA1 (io), 35 PTA0/LCD21 (io), 36 PTC4/LCD20 (io), 37 PTC3/LCD19 (io), 38 PTC2/LCD18 (io), 39 PTC1/LCD17 (io), 40 PTC0/LCD16 (io), 41 PTE7/LCD15 (io), 42 PTE6/LCD14 (io), 43 PTE5/LCD13 (io), 44 PTE4/LCD12 (io), 45 PTE3/LCD11 (io), 46 PTE2/LCD10 (io), 47 PTE1/LCD9 (io), 48 PTE0/LCD8 (io)

## MC9S08LG32J0xLH
designator *  value MC9S08LG32J0xLH
ki_keywords: NXP S08 Microcontroller; ki_description: 8-bit Segment LCD Microcontroller, S08 core, 32kB Flash, 1984B RAM, LQFP-64; ki_fp_filters: TQFP*10x10mm*P0.5mm*; Footprint: Package_QFP:TQFP-64_10x10mm_P0.5mm; Supplier: http://cache.nxp.com/files/microcontrollers/doc/ref_manual/MC9S08LG32RM.pdf
footprint TQFP-64_10x10mm_P0.5mm
pins: 1 PTD7/LCD7 (io), 2 PTD6/LCD6 (io), 3 PTD5/LCD5 (io), 4 PTD4/LCD4 (io), 5 PTD3/LCD3 (io), 6 PTD2/LCD2 (io), 7 PTB3/LCD32 (io), 8 PTB2/LCD31 (io), 9 PTB1/LCD30 (io), 10 PTB0/LCD29 (io), 11 PTD1/LCD1 (io), 12 PTD0/LCD0 (io), 13 VCAP1 (power), 14 VCAP2 (power), 15 VLL1 (power), 16 VLL2 (power), 17 VLL3 (power), 18 PTF5 (io), 19 PTF4 (io), 20 PTI5 (io), 21 PTI4 (io), 22 PTH7 (io), 23 VSS (power), 24 VDD (power), 25 PTF7/EXTAL (io), 26 PTF6/XTAL (io), 27 VDDA/VREFH (power), 28 VSSA/VREFL (power), 29 PTH6 (io), 30 PTF2 (io), 31 PTF1 (io), 32 PTF0 (io), 33 PTF3 (io), 34 PTH5 (io), 35 PTH4 (io), 36 PTC6/~{{RESET}} (io), 37 PTC5/BKGD/MS (io), 38 PTA7 (io), 39 PTA6 (io), 40 PTA5 (io), 41 PTA4 (io), 42 PTA3 (io), 43 PTA2 (io), 44 PTA1 (io), 45 PTG3/LCD36 (io), 46 PTG2/LCD35 (io), 47 PTA0/LCD21 (io), 48 PTC4/LCD20 (io), 49 PTC3/LCD19 (io), 50 PTC2/LCD18 (io), 51 PTC1/LCD17 (io), 52 PTC0/LCD16 (io), 53 PTE7/LCD15 (io), 54 PTE6/LCD14 (io), 55 VSS (power), 56 VLL3 (power), 57 PTG1/LCD34 (io), 58 PTG0/LCD33 (io), 59 PTE5/LCD13 (io), 60 PTE4/LCD12 (io), 61 PTE3/LCD11 (io), 62 PTE2/LCD10 (io), 63 PTE1/LCD9 (io), 64 PTE0/LCD8 (io)

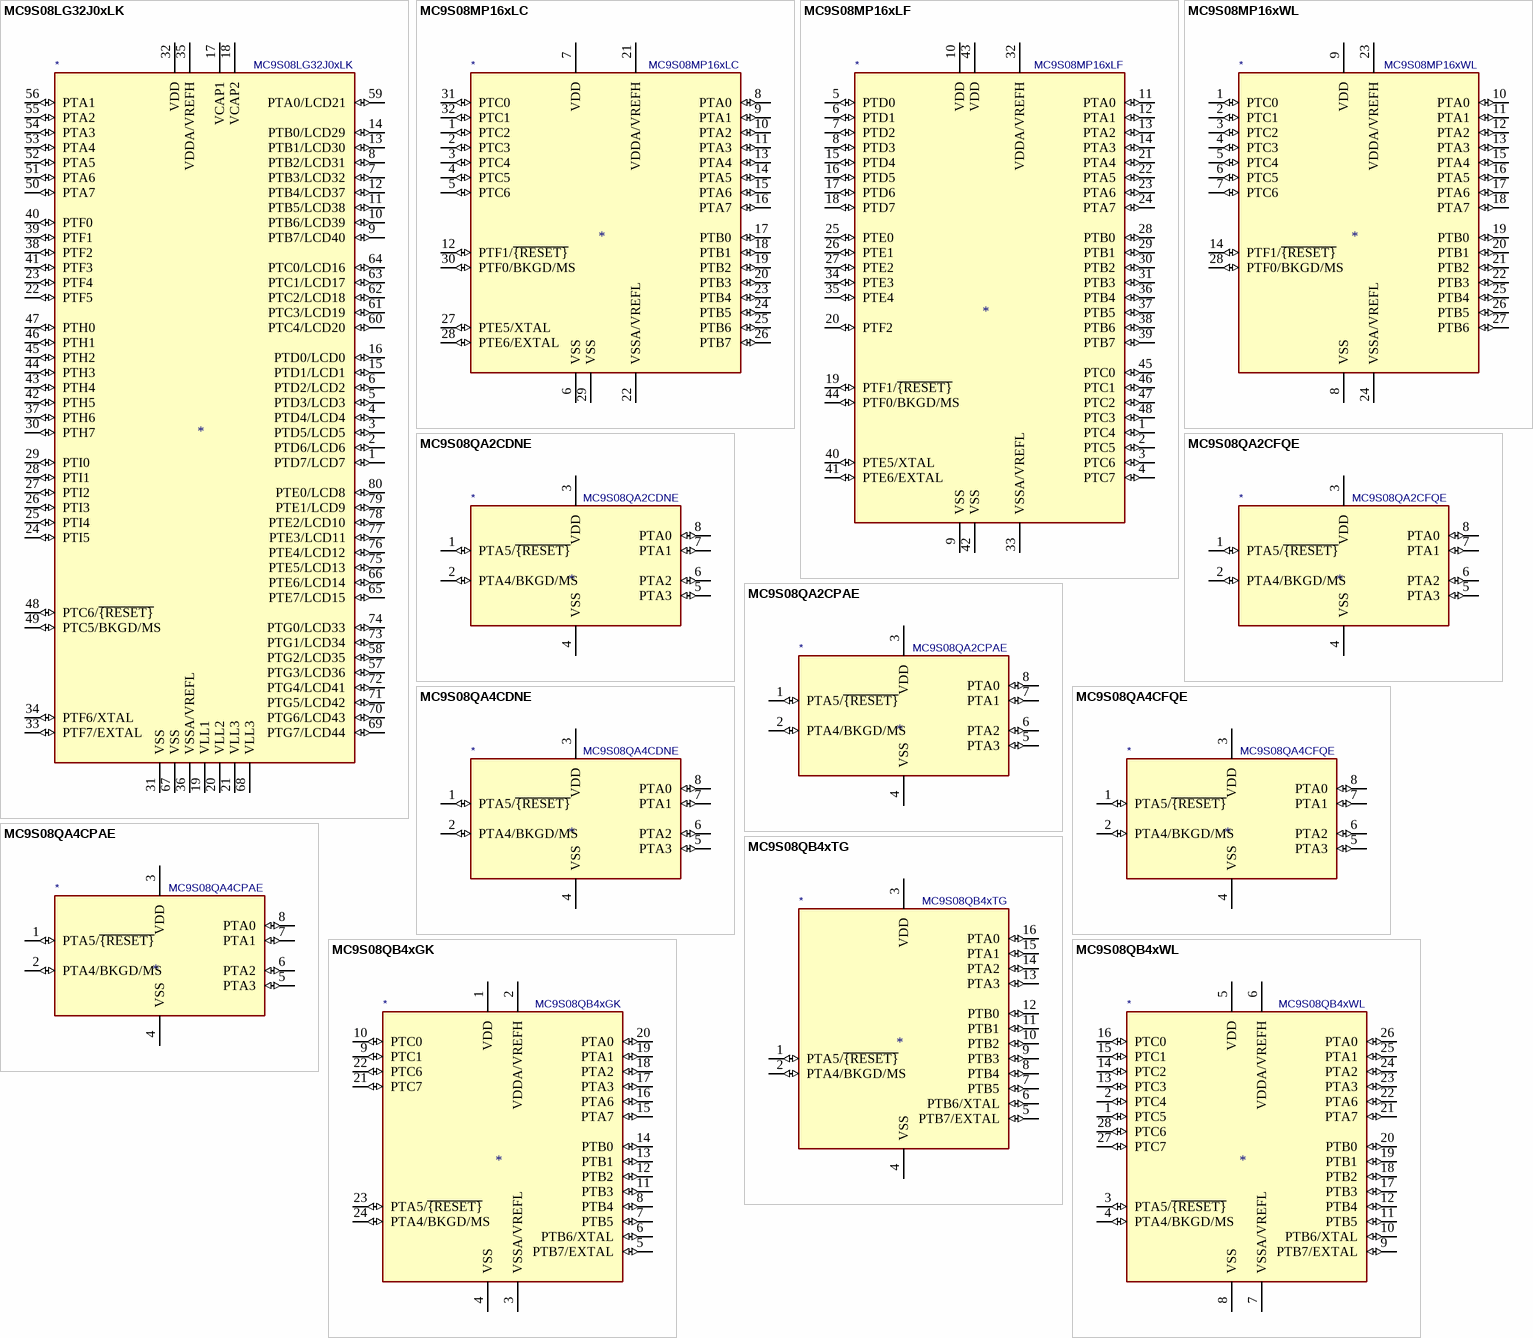
[diagram p14: symbols MC9S08LG32J0xLK to MC9S08QB4xWL]

## MC9S08LG32J0xLK
designator *  value MC9S08LG32J0xLK
ki_keywords: NXP S08 Microcontroller; ki_description: 8-bit Segment LCD Microcontroller, S08 core, 32kB Flash, 1984B RAM, LQFP-80; ki_fp_filters: TQFP*14x14mm*P0.65mm*; Footprint: Package_QFP:TQFP-80_14x14mm_P0.65mm; Supplier: http://cache.nxp.com/files/microcontrollers/doc/ref_manual/MC9S08LG32RM.pdf
footprint TQFP-80_14x14mm_P0.65mm
pins: 1 PTD7/LCD7 (io), 2 PTD6/LCD6 (io), 3 PTD5/LCD5 (io), 4 PTD4/LCD4 (io), 5 PTD3/LCD3 (io), 6 PTD2/LCD2 (io), 7 PTB3/LCD32 (io), 8 PTB2/LCD31 (io), 9 PTB7/LCD40 (io), 10 PTB6/LCD39 (io), 11 PTB5/LCD38 (io), 12 PTB4/LCD37 (io), 13 PTB1/LCD30 (io), 14 PTB0/LCD29 (io), 15 PTD1/LCD1 (io), 16 PTD0/LCD0 (io), 17 VCAP1 (power), 18 VCAP2 (power), 19 VLL1 (power), 20 VLL2 (power), 21 VLL3 (power), 22 PTF5 (io), 23 PTF4 (io), 24 PTI5 (io), 25 PTI4 (io), 26 PTI3 (io), 27 PTI2 (io), 28 PTI1 (io), 29 PTI0 (io), 30 PTH7 (io), 31 VSS (power), 32 VDD (power), 33 PTF7/EXTAL (io), 34 PTF6/XTAL (io), 35 VDDA/VREFH (power), 36 VSSA/VREFL (power), 37 PTH6 (io), 38 PTF2 (io), 39 PTF1 (io), 40 PTF0 (io), 41 PTF3 (io), 42 PTH5 (io), 43 PTH4 (io), 44 PTH3 (io), 45 PTH2 (io), 46 PTH1 (io), 47 PTH0 (io), 48 PTC6/~{{RESET}} (io), 49 PTC5/BKGD/MS (io), 50 PTA7 (io), 51 PTA6 (io), 52 PTA5 (io), 53 PTA4 (io), 54 PTA3 (io), 55 PTA2 (io), 56 PTA1 (io), 57 PTG3/LCD36 (io), 58 PTG2/LCD35 (io), 59 PTA0/LCD21 (io), 60 PTC4/LCD20 (io), 61 PTC3/LCD19 (io), 62 PTC2/LCD18 (io), 63 PTC1/LCD17 (io), 64 PTC0/LCD16 (io), 65 PTE7/LCD15 (io), 66 PTE6/LCD14 (io), 67 VSS (power), 68 VLL3 (power), 69 PTG7/LCD44 (io), 70 PTG6/LCD43 (io), 71 PTG5/LCD42 (io), 72 PTG4/LCD41 (io), 73 PTG1/LCD34 (io), 74 PTG0/LCD33 (io), 75 PTE5/LCD13 (io), 76 PTE4/LCD12 (io), 77 PTE3/LCD11 (io), 78 PTE2/LCD10 (io), 79 PTE1/LCD9 (io), 80 PTE0/LCD8 (io)

## MC9S08MP16xLC
designator *  value MC9S08MP16xLC
ki_keywords: NXP S08 Microcontroller; ki_description: 8-bit General Purpose Microcontroller, S08 core, 16kB Flash, 1kB RAM, LQFP-32; ki_fp_filters: LQFP*7x7mm*P0.8mm*; Footprint: Package_QFP:LQFP-32_7x7mm_P0.8mm; Supplier: http://cache.nxp.com/files/microcontrollers/doc/ref_manual/MC9S08MP16RM.pdf
footprint LQFP-32_7x7mm_P0.8mm
pins: 1 PTC2 (io), 2 PTC3 (io), 3 PTC4 (io), 4 PTC5 (io), 5 PTC6 (io), 6 VSS (power), 7 VDD (power), 8 PTA0 (io), 9 PTA1 (io), 10 PTA2 (io), 11 PTA3 (io), 12 PTF1/~{{RESET}} (io), 13 PTA4 (io), 14 PTA5 (io), 15 PTA6 (io), 16 PTA7 (io), 17 PTB0 (io), 18 PTB1 (io), 19 PTB2 (io), 20 PTB3 (io), 21 VDDA/VREFH (power), 22 VSSA/VREFL (power), 23 PTB4 (io), 24 PTB5 (io), 25 PTB6 (io), 26 PTB7 (io), 27 PTE5/XTAL (io), 28 PTE6/EXTAL (io), 29 VSS (power), 30 PTF0/BKGD/MS (io), 31 PTC0 (io), 32 PTC1 (io)

## MC9S08MP16xLF
designator *  value MC9S08MP16xLF
ki_keywords: NXP S08 Microcontroller; ki_description: 8-bit General Purpose Microcontroller, S08 core, 16kB Flash, 1kB RAM, LQFP-48; ki_fp_filters: LQFP*7x7mm*P0.5mm*; Footprint: Package_QFP:LQFP-48_7x7mm_P0.5mm; Supplier: http://cache.nxp.com/files/microcontrollers/doc/ref_manual/MC9S08MP16RM.pdf
footprint LQFP-48_7x7mm_P0.5mm
pins: 1 PTC4 (io), 2 PTC5 (io), 3 PTC6 (io), 4 PTC7 (io), 5 PTD0 (io), 6 PTD1 (io), 7 PTD2 (io), 8 PTD3 (io), 9 VSS (power), 10 VDD (power), 11 PTA0 (io), 12 PTA1 (io), 13 PTA2 (io), 14 PTA3 (io), 15 PTD4 (io), 16 PTD5 (io), 17 PTD6 (io), 18 PTD7 (io), 19 PTF1/~{{RESET}} (io), 20 PTF2 (io), 21 PTA4 (io), 22 PTA5 (io), 23 PTA6 (io), 24 PTA7 (io), 25 PTE0 (io), 26 PTE1 (io), 27 PTE2 (io), 28 PTB0 (io), 29 PTB1 (io), 30 PTB2 (io), 31 PTB3 (io), 32 VDDA/VREFH (power), 33 VSSA/VREFL (power), 34 PTE3 (io), 35 PTE4 (io), 36 PTB4 (io), 37 PTB5 (io), 38 PTB6 (io), 39 PTB7 (io), 40 PTE5/XTAL (io), 41 PTE6/EXTAL (io), 42 VSS (power), 43 VDD (power), 44 PTF0/BKGD/MS (io), 45 PTC0 (io), 46 PTC1 (io), 47 PTC2 (io), 48 PTC3 (io)

## MC9S08MP16xWL
designator *  value MC9S08MP16xWL
ki_keywords: NXP S08 Microcontroller; ki_description: 8-bit General Purpose Microcontroller, S08 core, 16kB Flash, 1kB RAM, SOIC-28; ki_fp_filters: SOIC*7.5x17.9mm*P1.27mm*; Footprint: Package_SO:SOIC-28W_7.5x17.9mm_P1.27mm; Supplier: http://cache.nxp.com/files/microcontrollers/doc/ref_manual/MC9S08MP16RM.pdf
footprint SOIC-28W_7.5x17.9mm_P1.27mm
pins: 1 PTC0 (io), 2 PTC1 (io), 3 PTC2 (io), 4 PTC3 (io), 5 PTC4 (io), 6 PTC5 (io), 7 PTC6 (io), 8 VSS (power), 9 VDD (power), 10 PTA0 (io), 11 PTA1 (io), 12 PTA2 (io), 13 PTA3 (io), 14 PTF1/~{{RESET}} (io), 15 PTA4 (io), 16 PTA5 (io), 17 PTA6 (io), 18 PTA7 (io), 19 PTB0 (io), 20 PTB1 (io), 21 PTB2 (io), 22 PTB3 (io), 23 VDDA/VREFH (power), 24 VSSA/VREFL (power), 25 PTB4 (io), 26 PTB5 (io), 27 PTB6 (io), 28 PTF0/BKGD/MS (io)

## MC9S08QA2CDNE
designator *  value MC9S08QA2CDNE
ki_keywords: NXP S08 Microcontroller; ki_description: 8-bit Small Package Microcontroller, S08 core, 2kB Flash, 160B RAM, SOIC-8; ki_fp_filters: SOIC*3.9x4.9mm*P1.27mm*; Footprint: Package_SO:SOIC-8_3.9x4.9mm_P1.27mm; Supplier: http://cache.nxp.com/files/microcontrollers/doc/ref_manual/MC9S08QA4RM.pdf
footprint SOIC-8_3.9x4.9mm_P1.27mm
pins: 1 PTA5/~{{RESET}} (io), 2 PTA4/BKGD/MS (io), 3 VDD (power), 4 VSS (power), 5 PTA3 (io), 6 PTA2 (io), 7 PTA1 (io), 8 PTA0 (io)

## MC9S08QA2CFQE
designator *  value MC9S08QA2CFQE
ki_keywords: NXP S08 Microcontroller; ki_description: 8-bit Small Package Microcontroller, S08 core, 2kB Flash, 160B RAM, DFN-8; ki_fp_filters: DFN*4x4mm*P0.8mm*; Footprint: Package_DFN_QFN:DFN-8-1EP_4x4mm_P0.8mm_EP2.5x3.6mm; Supplier: http://cache.nxp.com/files/microcontrollers/doc/ref_manual/MC9S08QA4RM.pdf
footprint DFN-8-1EP_4x4mm_P0.8mm_EP2.5x3.6mm
pins: 1 PTA5/~{{RESET}} (io), 2 PTA4/BKGD/MS (io), 3 VDD (power), 4 VSS (power), 5 PTA3 (io), 6 PTA2 (io), 7 PTA1 (io), 8 PTA0 (io)

## MC9S08QA2CPAE
designator *  value MC9S08QA2CPAE
ki_keywords: NXP S08 Microcontroller; ki_description: 8-bit Small Package Microcontroller, S08 core, 2kB Flash, 160B RAM, DIP-8; ki_fp_filters: DIP*7.62mm*; Footprint: Package_DIP:DIP-8_W7.62mm; Supplier: http://cache.nxp.com/files/microcontrollers/doc/ref_manual/MC9S08QA4RM.pdf
footprint DIP-8_W7.62mm
pins: 1 PTA5/~{{RESET}} (io), 2 PTA4/BKGD/MS (io), 3 VDD (power), 4 VSS (power), 5 PTA3 (io), 6 PTA2 (io), 7 PTA1 (io), 8 PTA0 (io)

## MC9S08QA4CDNE
designator *  value MC9S08QA4CDNE
ki_keywords: NXP S08 Microcontroller; ki_description: 8-bit Small Package Microcontroller, S08 core, 4kB Flash, 256B RAM, SOIC-8; ki_fp_filters: SOIC*3.9x4.9mm*P1.27mm*; Footprint: Package_SO:SOIC-8_3.9x4.9mm_P1.27mm; Supplier: http://cache.nxp.com/files/microcontrollers/doc/ref_manual/MC9S08QA4RM.pdf
footprint SOIC-8_3.9x4.9mm_P1.27mm
pins: 1 PTA5/~{{RESET}} (io), 2 PTA4/BKGD/MS (io), 3 VDD (power), 4 VSS (power), 5 PTA3 (io), 6 PTA2 (io), 7 PTA1 (io), 8 PTA0 (io)

## MC9S08QA4CFQE
designator *  value MC9S08QA4CFQE
ki_keywords: NXP S08 Microcontroller; ki_description: 8-bit Small Package Microcontroller, S08 core, 4kB Flash, 256B RAM, DFN-8; ki_fp_filters: DFN*4x4mm*P0.8mm*; Footprint: Package_DFN_QFN:DFN-8-1EP_4x4mm_P0.8mm_EP2.5x3.6mm; Supplier: http://cache.nxp.com/files/microcontrollers/doc/ref_manual/MC9S08QA4RM.pdf
footprint DFN-8-1EP_4x4mm_P0.8mm_EP2.5x3.6mm
pins: 1 PTA5/~{{RESET}} (io), 2 PTA4/BKGD/MS (io), 3 VDD (power), 4 VSS (power), 5 PTA3 (io), 6 PTA2 (io), 7 PTA1 (io), 8 PTA0 (io)

## MC9S08QA4CPAE
designator *  value MC9S08QA4CPAE
ki_keywords: NXP S08 Microcontroller; ki_description: 8-bit Small Package Microcontroller, S08 core, 4kB Flash, 256B RAM, DIP-8; ki_fp_filters: DIP*7.62mm*; Footprint: Package_DIP:DIP-8_W7.62mm; Supplier: http://cache.nxp.com/files/microcontrollers/doc/ref_manual/MC9S08QA4RM.pdf
footprint DIP-8_W7.62mm
pins: 1 PTA5/~{{RESET}} (io), 2 PTA4/BKGD/MS (io), 3 VDD (power), 4 VSS (power), 5 PTA3 (io), 6 PTA2 (io), 7 PTA1 (io), 8 PTA0 (io)

## MC9S08QB4xGK
designator *  value MC9S08QB4xGK
ki_keywords: NXP S08 Microcontroller; ki_description: 8-bit General Purpose Microcontroller, S08 core, 4kB Flash, 256B RAM, QFN-24; ki_fp_filters: QFN*1EP*5x5mm*P0.65mm*; Footprint: Package_DFN_QFN:QFN-24-1EP_5x5mm_P0.65mm_EP3.6x3.6mm; Supplier: http://cache.nxp.com/files/microcontrollers/doc/ref_manual/MC9S08QB8RM.pdf
footprint QFN-24-1EP_5x5mm_P0.65mm_EP3.6x3.6mm
pins: 1 VDD (power), 2 VDDA/VREFH (power), 3 VSSA/VREFL (power), 4 VSS (power), 5 PTB7/EXTAL (io), 6 PTB6/XTAL (io), 7 PTB5 (io), 8 PTB4 (io), 9 PTC1 (io), 10 PTC0 (io), 11 PTB3 (io), 12 PTB2 (io), 13 PTB1 (io), 14 PTB0 (io), 15 PTA7 (io), 16 PTA6 (io), 17 PTA3 (io), 18 PTA2 (io), 19 PTA1 (io), 20 PTA0 (io), 21 PTC7 (io), 22 PTC6 (io), 23 PTA5/~{{RESET}} (io), 24 PTA4/BKGD/MS (io)

## MC9S08QB4xTG
designator *  value MC9S08QB4xTG
ki_keywords: NXP S08 Microcontroller; ki_description: 8-bit General Purpose Microcontroller, S08 core, 4kB Flash, 256B RAM, TSSOP-16; ki_fp_filters: TSSOP*4.4x5mm*P0.65mm*; Footprint: Package_SO:TSSOP-16_4.4x5mm_P0.65mm; Supplier: http://cache.nxp.com/files/microcontrollers/doc/ref_manual/MC9S08QB8RM.pdf
footprint TSSOP-16_4.4x5mm_P0.65mm
pins: 1 PTA5/~{{RESET}} (io), 2 PTA4/BKGD/MS (io), 3 VDD (power), 4 VSS (power), 5 PTB7/EXTAL (io), 6 PTB6/XTAL (io), 7 PTB5 (io), 8 PTB4 (io), 9 PTB3 (io), 10 PTB2 (io), 11 PTB1 (io), 12 PTB0 (io), 13 PTA3 (io), 14 PTA2 (io), 15 PTA1 (io), 16 PTA0 (io)

## MC9S08QB4xWL
designator *  value MC9S08QB4xWL
ki_keywords: NXP S08 Microcontroller; ki_description: 8-bit General Purpose Microcontroller, S08 core, 4kB Flash, 256B RAM, SOIC-28; ki_fp_filters: SOIC*7.5x17.9mm*P1.27mm*; Footprint: Package_SO:SOIC-28W_7.5x17.9mm_P1.27mm; Supplier: http://cache.nxp.com/files/microcontrollers/doc/ref_manual/MC9S08QB8RM.pdf
footprint SOIC-28W_7.5x17.9mm_P1.27mm
pins: 1 PTC5 (io), 2 PTC4 (io), 3 PTA5/~{{RESET}} (io), 4 PTA4/BKGD/MS (io), 5 VDD (power), 6 VDDA/VREFH (power), 7 VSSA/VREFL (power), 8 VSS (power), 9 PTB7/EXTAL (io), 10 PTB6/XTAL (io), 11 PTB5 (io), 12 PTB4 (io), 13 PTC3 (io), 14 PTC2 (io), 15 PTC1 (io), 16 PTC0 (io), 17 PTB3 (io), 18 PTB2 (io), 19 PTB1 (io), 20 PTB0 (io), 21 PTA7 (io), 22 PTA6 (io), 23 PTA3 (io), 24 PTA2 (io), 25 PTA1 (io), 26 PTA0 (io), 27 PTC7 (io), 28 PTC6 (io)

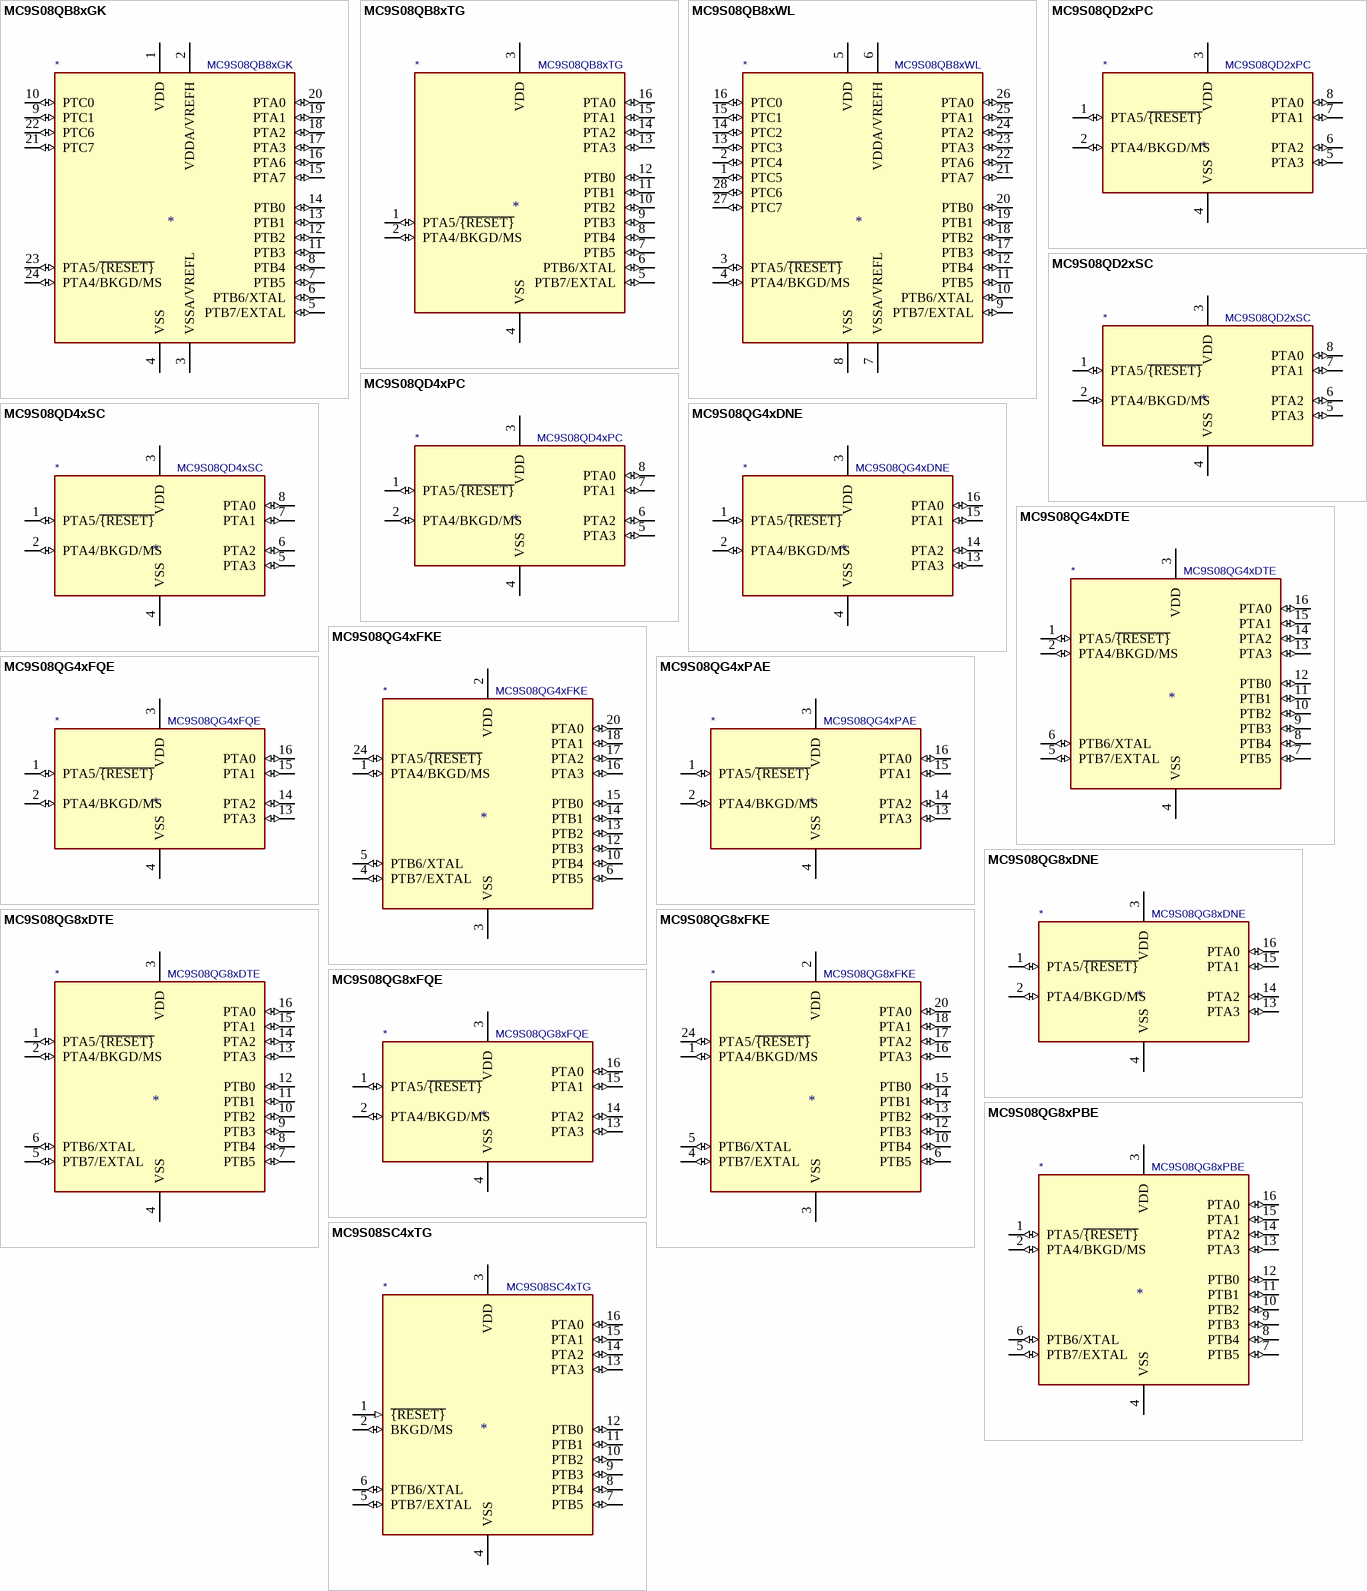
[diagram p15: symbols MC9S08QB8xGK to MC9S08SC4xTG]

## MC9S08QB8xGK
designator *  value MC9S08QB8xGK
ki_keywords: NXP S08 Microcontroller; ki_description: 8-bit General Purpose Microcontroller, S08 core, 8kB Flash, 512B RAM, QFN-24; ki_fp_filters: QFN*1EP*5x5mm*P0.65mm*; Footprint: Package_DFN_QFN:QFN-24-1EP_5x5mm_P0.65mm_EP3.6x3.6mm; Supplier: http://cache.nxp.com/files/microcontrollers/doc/ref_manual/MC9S08QB8RM.pdf
footprint QFN-24-1EP_5x5mm_P0.65mm_EP3.6x3.6mm
pins: 1 VDD (power), 2 VDDA/VREFH (power), 3 VSSA/VREFL (power), 4 VSS (power), 5 PTB7/EXTAL (io), 6 PTB6/XTAL (io), 7 PTB5 (io), 8 PTB4 (io), 9 PTC1 (io), 10 PTC0 (io), 11 PTB3 (io), 12 PTB2 (io), 13 PTB1 (io), 14 PTB0 (io), 15 PTA7 (io), 16 PTA6 (io), 17 PTA3 (io), 18 PTA2 (io), 19 PTA1 (io), 20 PTA0 (io), 21 PTC7 (io), 22 PTC6 (io), 23 PTA5/~{{RESET}} (io), 24 PTA4/BKGD/MS (io)

## MC9S08QB8xTG
designator *  value MC9S08QB8xTG
ki_keywords: NXP S08 Microcontroller; ki_description: 8-bit General Purpose Microcontroller, S08 core, 8kB Flash, 512B RAM, TSSOP-16; ki_fp_filters: TSSOP*4.4x5mm*P0.65mm*; Footprint: Package_SO:TSSOP-16_4.4x5mm_P0.65mm; Supplier: http://cache.nxp.com/files/microcontrollers/doc/ref_manual/MC9S08QB8RM.pdf
footprint TSSOP-16_4.4x5mm_P0.65mm
pins: 1 PTA5/~{{RESET}} (io), 2 PTA4/BKGD/MS (io), 3 VDD (power), 4 VSS (power), 5 PTB7/EXTAL (io), 6 PTB6/XTAL (io), 7 PTB5 (io), 8 PTB4 (io), 9 PTB3 (io), 10 PTB2 (io), 11 PTB1 (io), 12 PTB0 (io), 13 PTA3 (io), 14 PTA2 (io), 15 PTA1 (io), 16 PTA0 (io)

## MC9S08QB8xWL
designator *  value MC9S08QB8xWL
ki_keywords: NXP S08 Microcontroller; ki_description: 8-bit General Purpose Microcontroller, S08 core, 8kB Flash, 512B RAM, SOIC-28; ki_fp_filters: SOIC*7.5x17.9mm*P1.27mm*; Footprint: Package_SO:SOIC-28W_7.5x17.9mm_P1.27mm; Supplier: http://cache.nxp.com/files/microcontrollers/doc/ref_manual/MC9S08QB8RM.pdf
footprint SOIC-28W_7.5x17.9mm_P1.27mm
pins: 1 PTC5 (io), 2 PTC4 (io), 3 PTA5/~{{RESET}} (io), 4 PTA4/BKGD/MS (io), 5 VDD (power), 6 VDDA/VREFH (power), 7 VSSA/VREFL (power), 8 VSS (power), 9 PTB7/EXTAL (io), 10 PTB6/XTAL (io), 11 PTB5 (io), 12 PTB4 (io), 13 PTC3 (io), 14 PTC2 (io), 15 PTC1 (io), 16 PTC0 (io), 17 PTB3 (io), 18 PTB2 (io), 19 PTB1 (io), 20 PTB0 (io), 21 PTA7 (io), 22 PTA6 (io), 23 PTA3 (io), 24 PTA2 (io), 25 PTA1 (io), 26 PTA0 (io), 27 PTC7 (io), 28 PTC6 (io)

## MC9S08QD2xPC
designator *  value MC9S08QD2xPC
ki_keywords: NXP S08 Microcontroller; ki_description: 8-bit Small Package Microcontroller, S08 core, 2kB Flash, 128B RAM, DIP-8; ki_fp_filters: DIP*7.62mm*; Footprint: Package_DIP:DIP-8_W7.62mm; Supplier: http://cache.nxp.com/files/microcontrollers/doc/data_sheet/MC9S08QD4.pdf
footprint DIP-8_W7.62mm
pins: 1 PTA5/~{{RESET}} (io), 2 PTA4/BKGD/MS (io), 3 VDD (power), 4 VSS (power), 5 PTA3 (io), 6 PTA2 (io), 7 PTA1 (io), 8 PTA0 (io)

## MC9S08QD2xSC
designator *  value MC9S08QD2xSC
ki_keywords: NXP S08 Microcontroller; ki_description: 8-bit Small Package Microcontroller, S08 core, 2kB Flash, 128B RAM, SOIC-8; ki_fp_filters: SOIC*3.9x4.9mm*P1.27mm*; Footprint: Package_SO:SOIC-8_3.9x4.9mm_P1.27mm; Supplier: http://cache.nxp.com/files/microcontrollers/doc/data_sheet/MC9S08QD4.pdf
footprint SOIC-8_3.9x4.9mm_P1.27mm
pins: 1 PTA5/~{{RESET}} (io), 2 PTA4/BKGD/MS (io), 3 VDD (power), 4 VSS (power), 5 PTA3 (io), 6 PTA2 (io), 7 PTA1 (io), 8 PTA0 (io)

## MC9S08QD4xPC
designator *  value MC9S08QD4xPC
ki_keywords: NXP S08 Microcontroller; ki_description: 8-bit Small Package Microcontroller, S08 core, 4kB Flash, 256B RAM, DIP-8; ki_fp_filters: DIP*7.62mm*; Footprint: Package_DIP:DIP-8_W7.62mm; Supplier: http://cache.nxp.com/files/microcontrollers/doc/data_sheet/MC9S08QD4.pdf
footprint DIP-8_W7.62mm
pins: 1 PTA5/~{{RESET}} (io), 2 PTA4/BKGD/MS (io), 3 VDD (power), 4 VSS (power), 5 PTA3 (io), 6 PTA2 (io), 7 PTA1 (io), 8 PTA0 (io)

## MC9S08QD4xSC
designator *  value MC9S08QD4xSC
ki_keywords: NXP S08 Microcontroller; ki_description: 8-bit Small Package Microcontroller, S08 core, 4kB Flash, 256B RAM, SOIC-8; ki_fp_filters: SOIC*3.9x4.9mm*P1.27mm*; Footprint: Package_SO:SOIC-8_3.9x4.9mm_P1.27mm; Supplier: http://cache.nxp.com/files/microcontrollers/doc/data_sheet/MC9S08QD4.pdf
footprint SOIC-8_3.9x4.9mm_P1.27mm
pins: 1 PTA5/~{{RESET}} (io), 2 PTA4/BKGD/MS (io), 3 VDD (power), 4 VSS (power), 5 PTA3 (io), 6 PTA2 (io), 7 PTA1 (io), 8 PTA0 (io)

## MC9S08QG4xDNE
designator *  value MC9S08QG4xDNE
ki_keywords: NXP S08 Microcontroller; ki_description: 8-bit Small Package Microcontroller, S08 core, 4kB Flash, 256B RAM, SOIC-8; ki_fp_filters: SOIC*3.9x4.9mm*P1.27mm*; Footprint: Package_SO:SOIC-8_3.9x4.9mm_P1.27mm; Supplier: http://cache.nxp.com/files/microcontrollers/doc/data_sheet/MC9S08QG8.pdf
footprint SOIC-8_3.9x4.9mm_P1.27mm
pins: 1 PTA5/~{{RESET}} (io), 2 PTA4/BKGD/MS (io), 3 VDD (power), 4 VSS (power), 13 PTA3 (io), 14 PTA2 (io), 15 PTA1 (io), 16 PTA0 (io)

## MC9S08QG4xDTE
designator *  value MC9S08QG4xDTE
ki_keywords: NXP S08 Microcontroller; ki_description: 8-bit Small Package Microcontroller, S08 core, 4kB Flash, 256B RAM, TSSOP-16; ki_fp_filters: TSSOP*4.4x5mm*P0.65mm*; Footprint: Package_SO:TSSOP-16_4.4x5mm_P0.65mm; Supplier: http://cache.nxp.com/files/microcontrollers/doc/data_sheet/MC9S08QG8.pdf
footprint TSSOP-16_4.4x5mm_P0.65mm
pins: 1 PTA5/~{{RESET}} (io), 2 PTA4/BKGD/MS (io), 3 VDD (power), 4 VSS (power), 5 PTB7/EXTAL (io), 6 PTB6/XTAL (io), 7 PTB5 (io), 8 PTB4 (io), 9 PTB3 (io), 10 PTB2 (io), 11 PTB1 (io), 12 PTB0 (io), 13 PTA3 (io), 14 PTA2 (io), 15 PTA1 (io), 16 PTA0 (io)

## MC9S08QG4xFKE
designator *  value MC9S08QG4xFKE
ki_keywords: NXP S08 Microcontroller; ki_description: 8-bit Small Package Microcontroller, S08 core, 4kB Flash, 256B RAM, QFN-24; ki_fp_filters: QFN*4x4mm*P0.5mm*; Footprint: Package_DFN_QFN:QFN-24-1EP_4x4mm_P0.5mm_EP2.6x2.6mm; Supplier: http://cache.nxp.com/files/microcontrollers/doc/data_sheet/MC9S08QG8.pdf
footprint QFN-24-1EP_4x4mm_P0.5mm_EP2.6x2.6mm
pins: 1 PTA4/BKGD/MS (io), 2 VDD (power), 3 VSS (power), 4 PTB7/EXTAL (io), 5 PTB6/XTAL (io), 6 PTB5 (io), 10 PTB4 (io), 12 PTB3 (io), 13 PTB2 (io), 14 PTB1 (io), 15 PTB0 (io), 16 PTA3 (io), 17 PTA2 (io), 18 PTA1 (io), 20 PTA0 (io), 24 PTA5/~{{RESET}} (io)

## MC9S08QG4xFQE
designator *  value MC9S08QG4xFQE
ki_keywords: NXP S08 Microcontroller; ki_description: 8-bit Small Package Microcontroller, S08 core, 4kB Flash, 256B RAM, DFN-8; ki_fp_filters: DFN*4x4mm*P0.8mm*; Footprint: Package_DFN_QFN:DFN-8-1EP_4x4mm_P0.8mm_EP2.5x3.6mm; Supplier: http://cache.nxp.com/files/microcontrollers/doc/data_sheet/MC9S08QG8.pdf
footprint DFN-8-1EP_4x4mm_P0.8mm_EP2.5x3.6mm
pins: 1 PTA5/~{{RESET}} (io), 2 PTA4/BKGD/MS (io), 3 VDD (power), 4 VSS (power), 13 PTA3 (io), 14 PTA2 (io), 15 PTA1 (io), 16 PTA0 (io)

## MC9S08QG4xPAE
designator *  value MC9S08QG4xPAE
ki_keywords: NXP S08 Microcontroller; ki_description: 8-bit Small Package Microcontroller, S08 core, 4kB Flash, 256B RAM, DIP-8; ki_fp_filters: DIP*7.62mm*; Footprint: Package_DIP:DIP-8_W7.62mm; Supplier: http://cache.nxp.com/files/microcontrollers/doc/data_sheet/MC9S08QG8.pdf
footprint DIP-8_W7.62mm
pins: 1 PTA5/~{{RESET}} (io), 2 PTA4/BKGD/MS (io), 3 VDD (power), 4 VSS (power), 13 PTA3 (io), 14 PTA2 (io), 15 PTA1 (io), 16 PTA0 (io)

## MC9S08QG8xDNE
designator *  value MC9S08QG8xDNE
ki_keywords: NXP S08 Microcontroller; ki_description: 8-bit Small Package Microcontroller, S08 core, 8kB Flash, 512B RAM, SOIC-8; ki_fp_filters: SOIC*3.9x4.9mm*P1.27mm*; Footprint: Package_SO:SOIC-8_3.9x4.9mm_P1.27mm; Supplier: http://cache.nxp.com/files/microcontrollers/doc/data_sheet/MC9S08QG8.pdf
footprint SOIC-8_3.9x4.9mm_P1.27mm
pins: 1 PTA5/~{{RESET}} (io), 2 PTA4/BKGD/MS (io), 3 VDD (power), 4 VSS (power), 13 PTA3 (io), 14 PTA2 (io), 15 PTA1 (io), 16 PTA0 (io)

## MC9S08QG8xDTE
designator *  value MC9S08QG8xDTE
ki_keywords: NXP S08 Microcontroller; ki_description: 8-bit Small Package Microcontroller, S08 core, 8kB Flash, 512B RAM, TSSOP-16; ki_fp_filters: TSSOP*4.4x5mm*P0.65mm*; Footprint: Package_SO:TSSOP-16_4.4x5mm_P0.65mm; Supplier: http://cache.nxp.com/files/microcontrollers/doc/data_sheet/MC9S08QG8.pdf
footprint TSSOP-16_4.4x5mm_P0.65mm
pins: 1 PTA5/~{{RESET}} (io), 2 PTA4/BKGD/MS (io), 3 VDD (power), 4 VSS (power), 5 PTB7/EXTAL (io), 6 PTB6/XTAL (io), 7 PTB5 (io), 8 PTB4 (io), 9 PTB3 (io), 10 PTB2 (io), 11 PTB1 (io), 12 PTB0 (io), 13 PTA3 (io), 14 PTA2 (io), 15 PTA1 (io), 16 PTA0 (io)

## MC9S08QG8xFKE
designator *  value MC9S08QG8xFKE
ki_keywords: NXP S08 Microcontroller; ki_description: 8-bit Small Package Microcontroller, S08 core, 8kB Flash, 512B RAM, QFN-24; ki_fp_filters: QFN*4x4mm*P0.5mm*; Footprint: Package_DFN_QFN:QFN-24-1EP_4x4mm_P0.5mm_EP2.6x2.6mm; Supplier: http://cache.nxp.com/files/microcontrollers/doc/data_sheet/MC9S08QG8.pdf
footprint QFN-24-1EP_4x4mm_P0.5mm_EP2.6x2.6mm
pins: 1 PTA4/BKGD/MS (io), 2 VDD (power), 3 VSS (power), 4 PTB7/EXTAL (io), 5 PTB6/XTAL (io), 6 PTB5 (io), 10 PTB4 (io), 12 PTB3 (io), 13 PTB2 (io), 14 PTB1 (io), 15 PTB0 (io), 16 PTA3 (io), 17 PTA2 (io), 18 PTA1 (io), 20 PTA0 (io), 24 PTA5/~{{RESET}} (io)

## MC9S08QG8xFQE
designator *  value MC9S08QG8xFQE
ki_keywords: NXP S08 Microcontroller; ki_description: 8-bit Small Package Microcontroller, S08 core, 8kB Flash, 512B RAM, DFN-8; ki_fp_filters: DFN*4x4mm*P0.8mm*; Footprint: Package_DFN_QFN:DFN-8-1EP_4x4mm_P0.8mm_EP2.5x3.6mm; Supplier: http://cache.nxp.com/files/microcontrollers/doc/data_sheet/MC9S08QG8.pdf
footprint DFN-8-1EP_4x4mm_P0.8mm_EP2.5x3.6mm
pins: 1 PTA5/~{{RESET}} (io), 2 PTA4/BKGD/MS (io), 3 VDD (power), 4 VSS (power), 13 PTA3 (io), 14 PTA2 (io), 15 PTA1 (io), 16 PTA0 (io)

## MC9S08QG8xPBE
designator *  value MC9S08QG8xPBE
ki_keywords: NXP S08 Microcontroller; ki_description: 8-bit Small Package Microcontroller, S08 core, 8kB Flash, 512B RAM, DIP-16; ki_fp_filters: DIP*7.62mm*; Footprint: Package_DIP:DIP-16_W7.62mm; Supplier: http://cache.nxp.com/files/microcontrollers/doc/data_sheet/MC9S08QG8.pdf
footprint DIP-16_W7.62mm
pins: 1 PTA5/~{{RESET}} (io), 2 PTA4/BKGD/MS (io), 3 VDD (power), 4 VSS (power), 5 PTB7/EXTAL (io), 6 PTB6/XTAL (io), 7 PTB5 (io), 8 PTB4 (io), 9 PTB3 (io), 10 PTB2 (io), 11 PTB1 (io), 12 PTB0 (io), 13 PTA3 (io), 14 PTA2 (io), 15 PTA1 (io), 16 PTA0 (io)

## MC9S08SC4xTG
designator *  value MC9S08SC4xTG
ki_keywords: NXP S08 Microcontroller; ki_description: 8-bit Small Package Microcontroller, S08 core, 4kB Flash, 256B RAM, TSSOP-16; ki_fp_filters: TSSOP*4.4x5mm*P0.65mm*; Footprint: Package_SO:TSSOP-16_4.4x5mm_P0.65mm; Supplier: http://cache.nxp.com/files/microcontrollers/doc/ref_manual/MC9S08SC4RM.pdf
footprint TSSOP-16_4.4x5mm_P0.65mm
pins: 1 ~{{RESET}} (in), 2 BKGD/MS (io), 3 VDD (power), 4 VSS (power), 5 PTB7/EXTAL (io), 6 PTB6/XTAL (io), 7 PTB5 (io), 8 PTB4 (io), 9 PTB3 (io), 10 PTB2 (io), 11 PTB1 (io), 12 PTB0 (io), 13 PTA3 (io), 14 PTA2 (io), 15 PTA1 (io), 16 PTA0 (io)

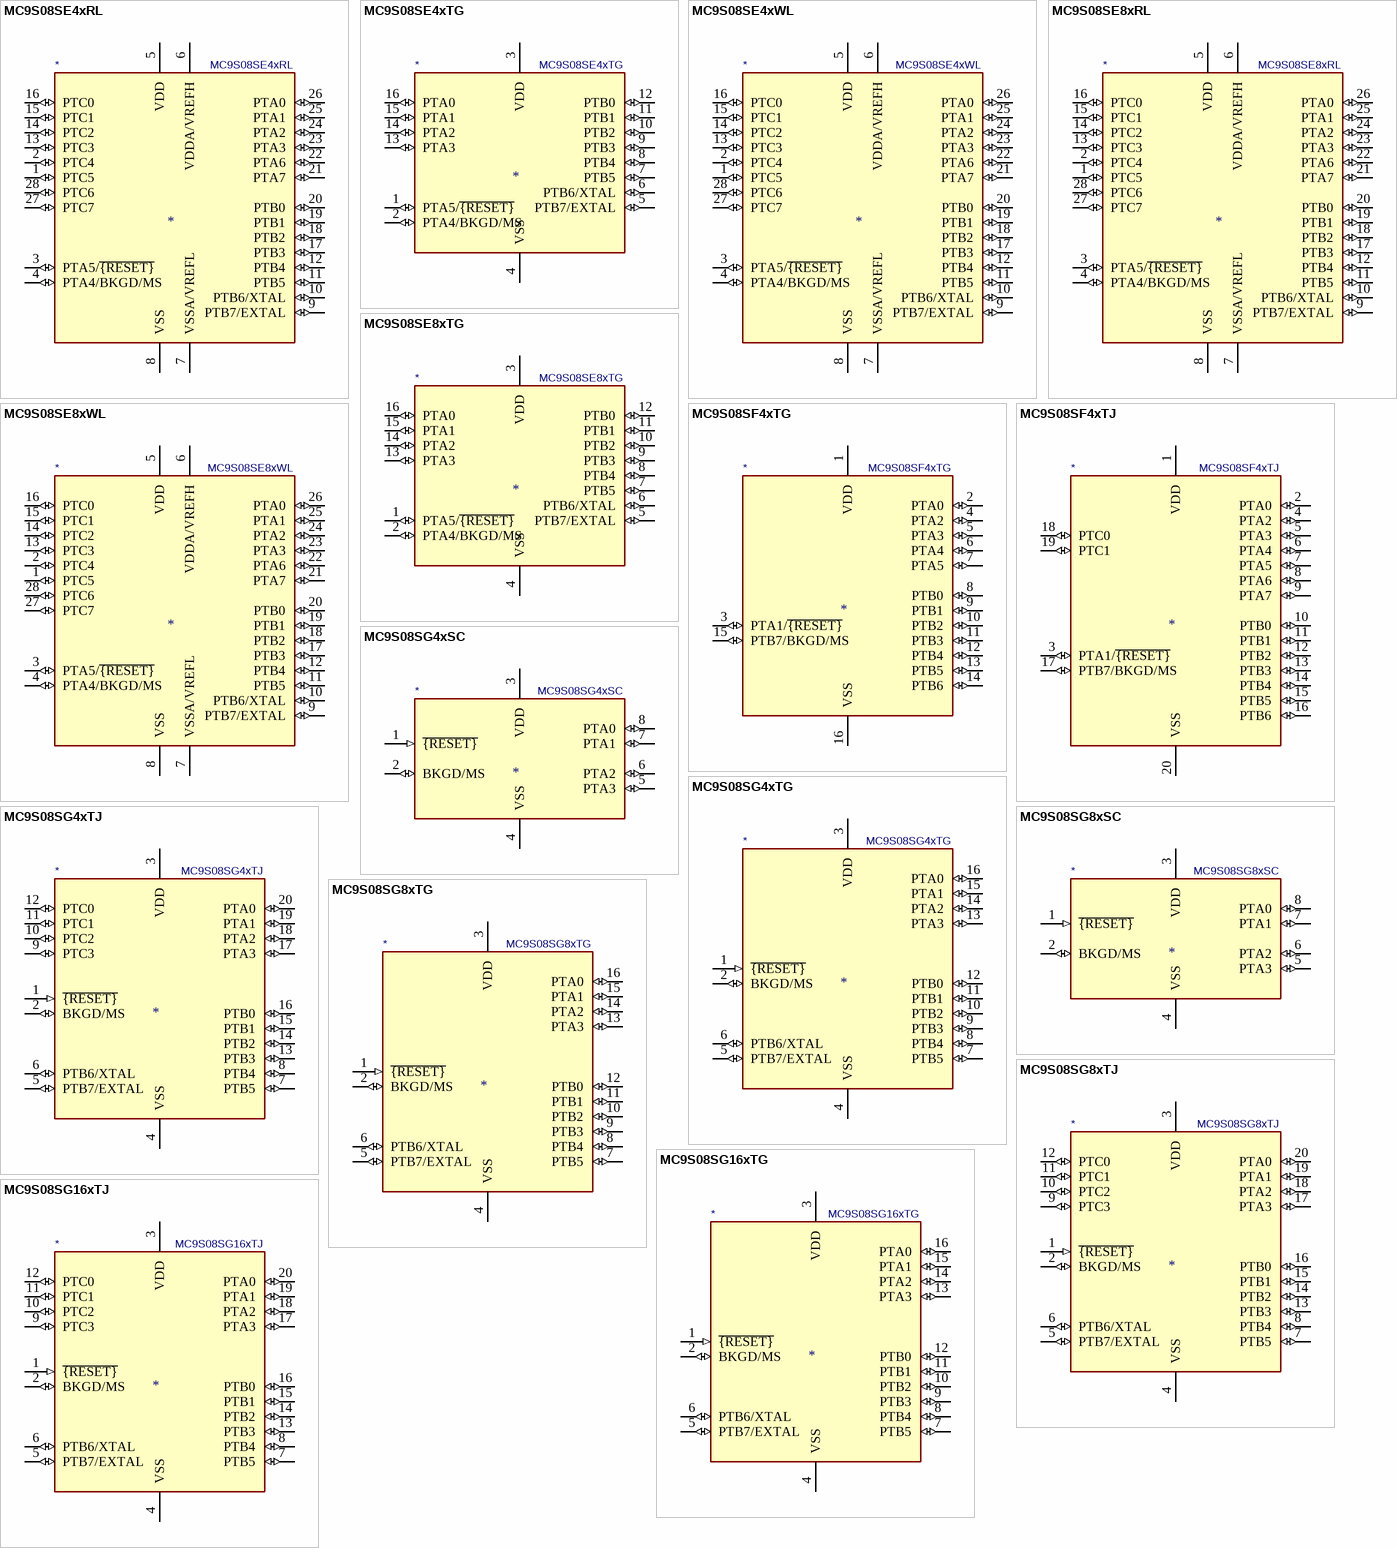
[diagram p16: symbols MC9S08SE4xRL to MC9S08SG16xTJ]

## MC9S08SE4xRL
designator *  value MC9S08SE4xRL
ki_keywords: NXP S08 Microcontroller; ki_description: 8-bit General Purpose Microcontroller, S08 core, 4kB Flash, 256B RAM, DIP-28; ki_fp_filters: DIP*15.24mm*; Footprint: Package_DIP:DIP-28_W15.24mm; Supplier: http://cache.nxp.com/files/microcontrollers/doc/ref_manual/MC9S08SE8RM.pdf
footprint DIP-28_W15.24mm
pins: 1 PTC5 (io), 2 PTC4 (io), 3 PTA5/~{{RESET}} (io), 4 PTA4/BKGD/MS (io), 5 VDD (power), 6 VDDA/VREFH (power), 7 VSSA/VREFL (power), 8 VSS (power), 9 PTB7/EXTAL (io), 10 PTB6/XTAL (io), 11 PTB5 (io), 12 PTB4 (io), 13 PTC3 (io), 14 PTC2 (io), 15 PTC1 (io), 16 PTC0 (io), 17 PTB3 (io), 18 PTB2 (io), 19 PTB1 (io), 20 PTB0 (io), 21 PTA7 (io), 22 PTA6 (io), 23 PTA3 (io), 24 PTA2 (io), 25 PTA1 (io), 26 PTA0 (io), 27 PTC7 (io), 28 PTC6 (io)

## MC9S08SE4xTG
designator *  value MC9S08SE4xTG
ki_keywords: NXP S08 Microcontroller; ki_description: 8-bit General Purpose Microcontroller, S08 core, 4kB Flash, 256B RAM, TSSOP-16; ki_fp_filters: TSSOP*4.4x5mm*P0.65mm*; Footprint: Package_SO:TSSOP-16_4.4x5mm_P0.65mm; Supplier: http://cache.nxp.com/files/microcontrollers/doc/ref_manual/MC9S08SE8RM.pdf
footprint TSSOP-16_4.4x5mm_P0.65mm
pins: 1 PTA5/~{{RESET}} (io), 2 PTA4/BKGD/MS (io), 3 VDD (power), 4 VSS (power), 5 PTB7/EXTAL (io), 6 PTB6/XTAL (io), 7 PTB5 (io), 8 PTB4 (io), 9 PTB3 (io), 10 PTB2 (io), 11 PTB1 (io), 12 PTB0 (io), 13 PTA3 (io), 14 PTA2 (io), 15 PTA1 (io), 16 PTA0 (io)